# Altium schematic symbol library ubloxLib.SchLib: 81 symbols (part 2 of 3)
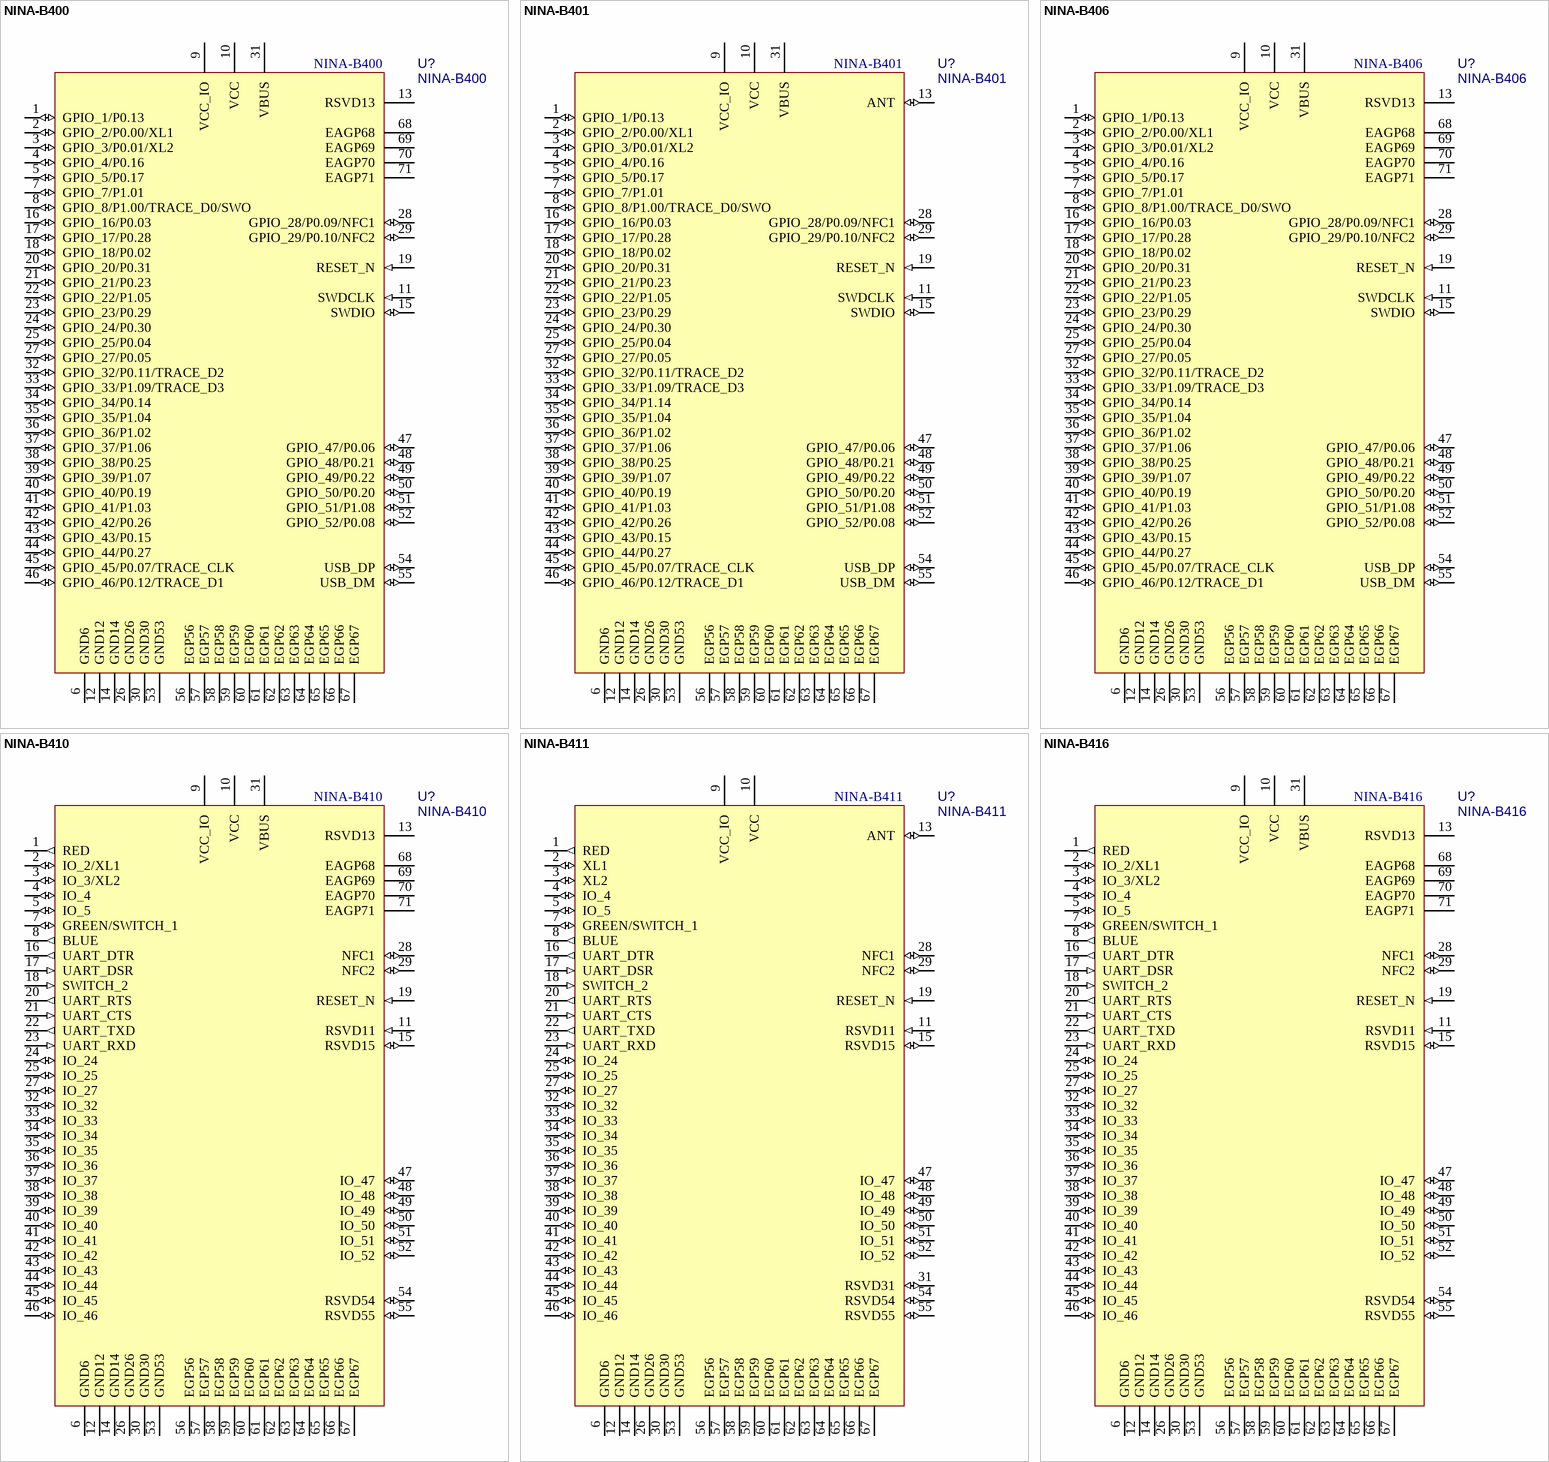
[diagram p16: symbols NINA-B400 to NINA-B416]

## NINA-B410
designator U?
u-blox NINA-B410 Bluetooth 5 LE, 802.15.4 module; Part Description: Stand-alone Bluetooth low energy module; Manufacturer: u-blox; Value: NINA-B410
footprint NINA_LGA71R_1500X1000X223_UFL (Stand-alone Bluetooth low energy module)
pins: 1 RED (out), 2 IO_2/XL1 (io), 3 IO_3/XL2 (io), 4 IO_4 (io), 5 IO_5 (io), 6 GND6 (power), 7 GREEN/SWITCH_1 (io), 8 BLUE (out), 9 VCC_IO (power), 10 VCC (power), 11 RSVD11 (in), 12 GND12 (power), 13 RSVD13, 14 GND14 (power), 15 RSVD15 (io), 16 UART_DTR (out), 17 UART_DSR (in), 18 SWITCH_2 (in), 19 RESET_N (in), 20 UART_RTS (out), 21 UART_CTS (in), 22 UART_TXD (out), 23 UART_RXD (in), 24 IO_24 (io), 25 IO_25 (io), 26 GND26 (power), 27 IO_27 (io), 28 NFC1 (io), 29 NFC2 (io), 30 GND30 (power), 31 VBUS (power), 32 IO_32 (io), 33 IO_33 (io), 34 IO_34 (io), 35 IO_35 (io), 36 IO_36 (io), 37 IO_37 (io), 38 IO_38 (io), 39 IO_39 (io), 40 IO_40 (io), 41 IO_41 (io), 42 IO_42 (io), 43 IO_43 (io), 44 IO_44 (io), 45 IO_45 (io), 46 IO_46 (io), 47 IO_47 (io), 48 IO_48 (io), 49 IO_49 (io), 50 IO_50 (io), 51 IO_51 (io), 52 IO_52 (io), 53 GND53 (power), 54 RSVD54 (io), 55 RSVD55 (io), 56 EGP56 (power), 57 EGP57 (power), 58 EGP58 (power), 59 EGP59 (power), 60 EGP60 (power), 61 EGP61 (power), 62 EGP62 (power), 63 EGP63 (power), 64 EGP64 (power), 65 EGP65 (power), 66 EGP66 (power), 67 EGP67 (power), 68 EAGP68 (power), 69 EAGP69 (power), 70 EAGP70 (power), 71 EAGP71 (power)

## NINA-B411
designator U?
u-blox NINA-B411 Bluetooth 5 LE, 802.15.4 module; Part Description: Stand-alone Bluetooth low energy module; Manufacturer: u-blox; Value: NINA-B411
footprint NINA_LGA67R_1160X1000X223_PIN (Stand-alone Bluetooth low energy module)
pins: 1 RED (out), 2 XL1 (io), 3 XL2 (io), 4 IO_4 (io), 5 IO_5 (io), 6 GND6 (power), 7 GREEN/SWITCH_1 (io), 8 BLUE (out), 9 VCC_IO (power), 10 VCC (power), 11 RSVD11 (in), 12 GND12 (power), 13 ANT (io), 14 GND14 (power), 15 RSVD15 (io), 16 UART_DTR (out), 17 UART_DSR (in), 18 SWITCH_2 (in), 19 RESET_N (in), 20 UART_RTS (out), 21 UART_CTS (in), 22 UART_TXD (out), 23 UART_RXD (in), 24 IO_24 (io), 25 IO_25 (io), 26 GND26 (power), 27 IO_27 (io), 28 NFC1 (io), 29 NFC2 (io), 30 GND30 (power), 31 RSVD31 (io), 32 IO_32 (io), 33 IO_33 (io), 34 IO_34 (io), 35 IO_35 (io), 36 IO_36 (io), 37 IO_37 (io), 38 IO_38 (io), 39 IO_39 (io), 40 IO_40 (io), 41 IO_41 (io), 42 IO_42 (io), 43 IO_43 (io), 44 IO_44 (io), 45 IO_45 (io), 46 IO_46 (io), 47 IO_47 (io), 48 IO_48 (io), 49 IO_49 (io), 50 IO_50 (io), 51 IO_51 (io), 52 IO_52 (io), 53 GND53 (power), 54 RSVD54 (io), 55 RSVD55 (io), 56 EGP56 (power), 57 EGP57 (power), 58 EGP58 (power), 59 EGP59 (power), 60 EGP60 (power), 61 EGP61 (power), 62 EGP62 (power), 63 EGP63 (power), 64 EGP64 (power), 65 EGP65 (power), 66 EGP66 (power), 67 EGP67 (power)

## NINA-B416
designator U?
u-blox NINA-B416 Bluetooth 5 LE, 802.15.4 module; Part Description: Stand-alone Bluetooth low energy module; Manufacturer: u-blox; Value: NINA-B416
footprint NINA_LGA71R_1500X1000X223_PCB (Stand-alone Bluetooth low energy module)
pins: 1 RED (out), 2 IO_2/XL1 (io), 3 IO_3/XL2 (io), 4 IO_4 (io), 5 IO_5 (io), 6 GND6 (power), 7 GREEN/SWITCH_1 (io), 8 BLUE (out), 9 VCC_IO (power), 10 VCC (power), 11 RSVD11 (in), 12 GND12 (power), 13 RSVD13, 14 GND14 (power), 15 RSVD15 (io), 16 UART_DTR (out), 17 UART_DSR (in), 18 SWITCH_2 (in), 19 RESET_N (in), 20 UART_RTS (out), 21 UART_CTS (in), 22 UART_TXD (out), 23 UART_RXD (in), 24 IO_24 (io), 25 IO_25 (io), 26 GND26 (power), 27 IO_27 (io), 28 NFC1 (io), 29 NFC2 (io), 30 GND30 (power), 31 VBUS (power), 32 IO_32 (io), 33 IO_33 (io), 34 IO_34 (io), 35 IO_35 (io), 36 IO_36 (io), 37 IO_37 (io), 38 IO_38 (io), 39 IO_39 (io), 40 IO_40 (io), 41 IO_41 (io), 42 IO_42 (io), 43 IO_43 (io), 44 IO_44 (io), 45 IO_45 (io), 46 IO_46 (io), 47 IO_47 (io), 48 IO_48 (io), 49 IO_49 (io), 50 IO_50 (io), 51 IO_51 (io), 52 IO_52 (io), 53 GND53 (power), 54 RSVD54 (io), 55 RSVD55 (io), 56 EGP56 (power), 57 EGP57 (power), 58 EGP58 (power), 59 EGP59 (power), 60 EGP60 (power), 61 EGP61 (power), 62 EGP62 (power), 63 EGP63 (power), 64 EGP64 (power), 65 EGP65 (power), 66 EGP66 (power), 67 EGP67 (power), 68 EAGP68 (power), 69 EAGP69 (power), 70 EAGP70 (power), 71 EAGP71 (power)

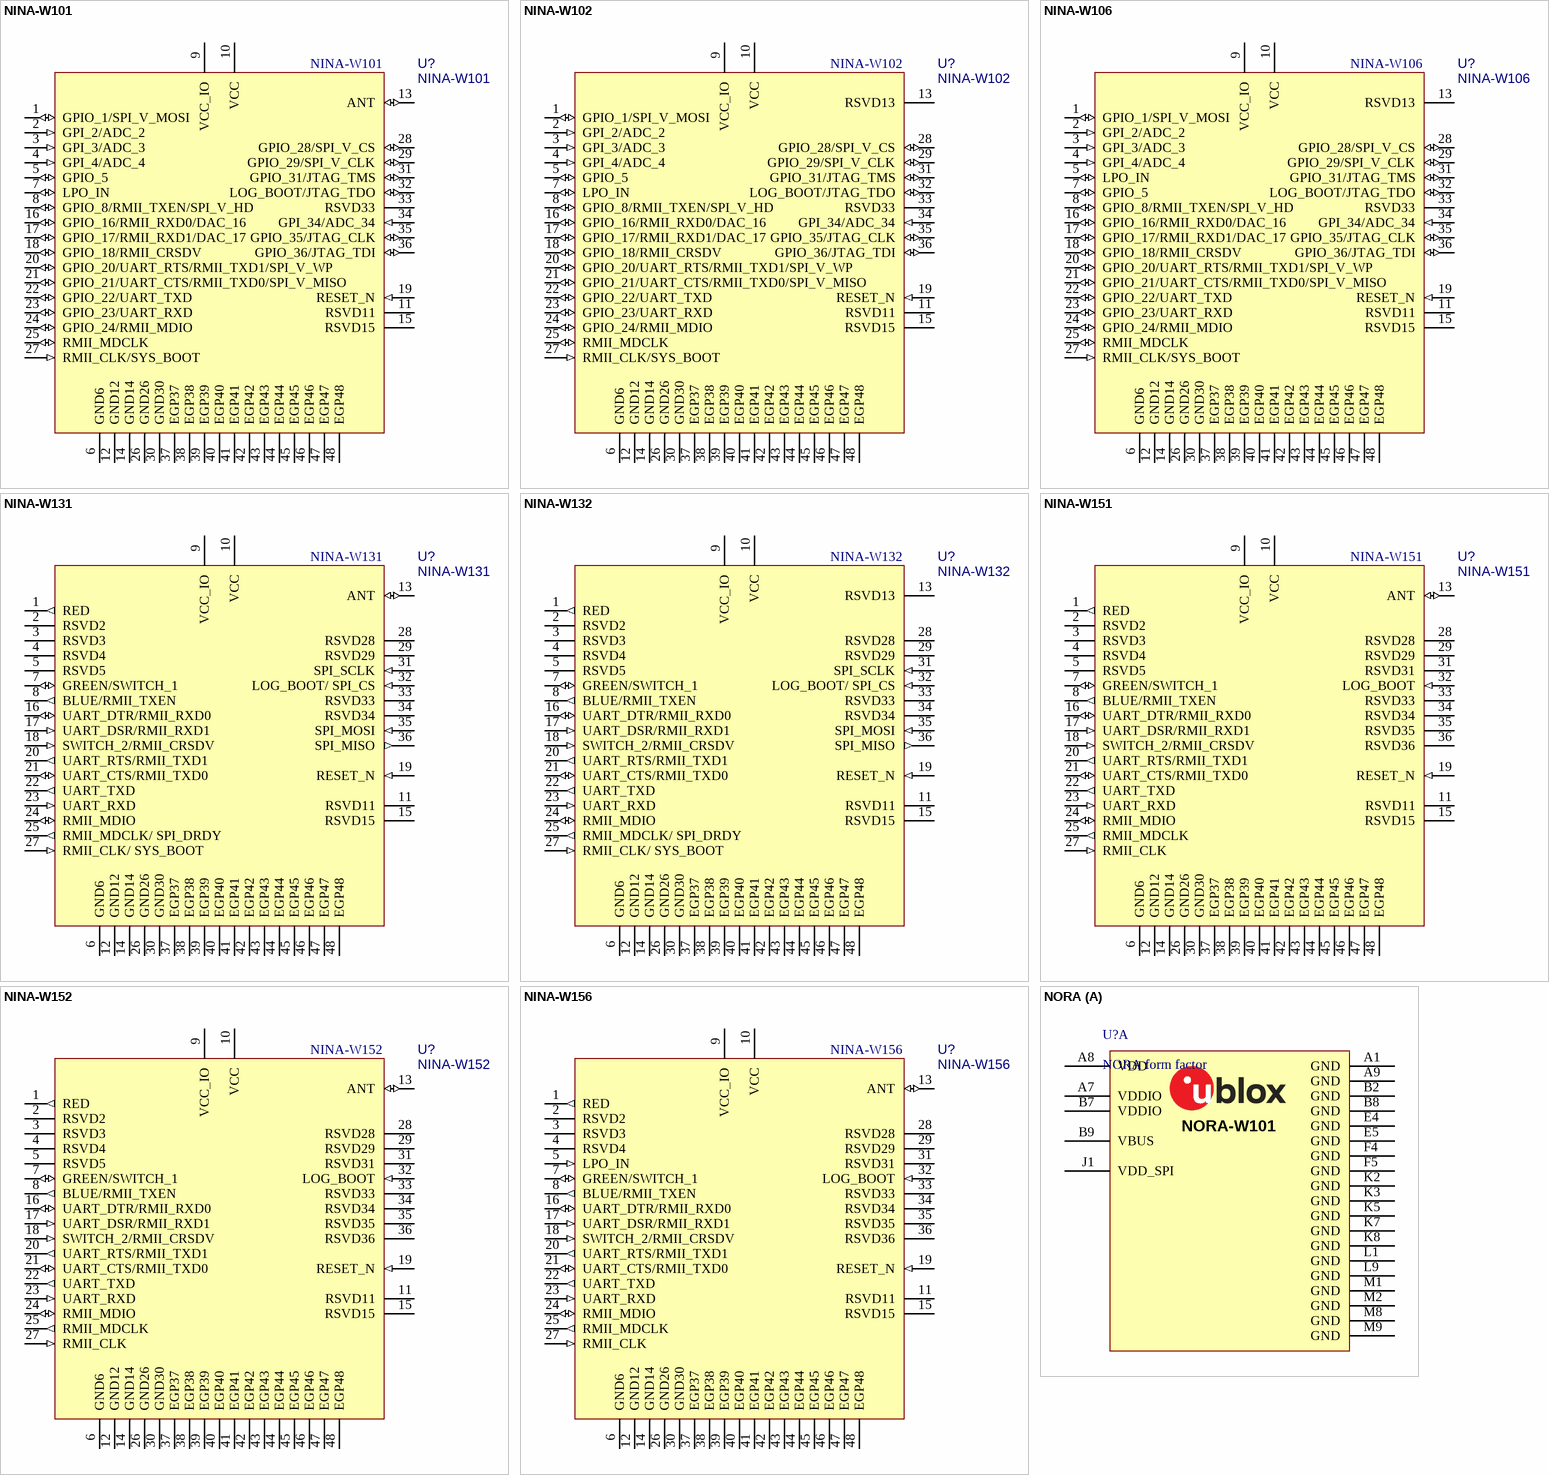
[diagram p8: symbols NINA-W101 to NORA]

## NINA-W101
designator U?
u-blox NINA-W101 WiFi, Bluetooth dual-mode module; Part Description: Stand-alone Bluetooth low energy module; Manufacturer: u-blox; Value: NINA-W101
footprint NINA_LGA48R_1060X1000X220_PIN (Stand-alone Bluetooth low energy module)
pins: 1 GPIO_1/SPI_V_MOSI (io), 2 GPI_2/ADC_2 (in), 3 GPI_3/ADC_3 (in), 4 GPI_4/ADC_4 (in), 5 GPIO_5 (io), 6 GND6 (power), 7 LPO_IN (io), 8 GPIO_8/RMII_TXEN/SPI_V_HD (io), 9 VCC_IO (power), 10 VCC (power), 11 RSVD11, 12 GND12 (power), 13 ANT (io), 14 GND14 (power), 15 RSVD15, 16 GPIO_16/RMII_RXD0/DAC_16 (io), 17 GPIO_17/RMII_RXD1/DAC_17 (io), 18 GPIO_18/RMII_CRSDV (io), 19 RESET_N (in), 20 GPIO_20/UART_RTS/RMII_TXD1/SPI_V_WP (io), 21 GPIO_21/UART_CTS/RMII_TXD0/SPI_V_MISO (io), 22 GPIO_22/UART_TXD (io), 23 GPIO_23/UART_RXD (io), 24 GPIO_24/RMII_MDIO (io), 25 RMII_MDCLK (io), 26 GND26 (power), 27 RMII_CLK/SYS_BOOT (in), 28 GPIO_28/SPI_V_CS (io), 29 GPIO_29/SPI_V_CLK (io), 30 GND30 (power), 31 GPIO_31/JTAG_TMS (io), 32 LOG_BOOT/JTAG_TDO (io), 33 RSVD33, 34 GPI_34/ADC_34 (in), 35 GPIO_35/JTAG_CLK (io), 36 GPIO_36/JTAG_TDI (io), 37 EGP37 (power), 38 EGP38 (power), 39 EGP39 (power), 40 EGP40 (power), 41 EGP41 (power), 42 EGP42 (power), 43 EGP43 (power), 44 EGP44 (power), 45 EGP45 (power), 46 EGP46 (power), 47 EGP47 (power), 48 EGP48 (power)

## NINA-W102
designator U?
u-blox NINA-W102 WiFi, Bluetooth dual-mode module; Part Description: Stand-alone Bluetooth low energy module; Manufacturer: u-blox; Value: NINA-W102
footprint NINA_LGA48R_1400X1000X380_PIFA (Stand-alone Bluetooth low energy module)
pins: 1 GPIO_1/SPI_V_MOSI (io), 2 GPI_2/ADC_2 (in), 3 GPI_3/ADC_3 (in), 4 GPI_4/ADC_4 (in), 5 GPIO_5 (io), 6 GND6 (power), 7 LPO_IN (io), 8 GPIO_8/RMII_TXEN/SPI_V_HD (io), 9 VCC_IO (power), 10 VCC (power), 11 RSVD11, 12 GND12 (power), 13 RSVD13, 14 GND14 (power), 15 RSVD15, 16 GPIO_16/RMII_RXD0/DAC_16 (io), 17 GPIO_17/RMII_RXD1/DAC_17 (io), 18 GPIO_18/RMII_CRSDV (io), 19 RESET_N (in), 20 GPIO_20/UART_RTS/RMII_TXD1/SPI_V_WP (io), 21 GPIO_21/UART_CTS/RMII_TXD0/SPI_V_MISO (io), 22 GPIO_22/UART_TXD (io), 23 GPIO_23/UART_RXD (io), 24 GPIO_24/RMII_MDIO (io), 25 RMII_MDCLK (io), 26 GND26 (power), 27 RMII_CLK/SYS_BOOT (in), 28 GPIO_28/SPI_V_CS (io), 29 GPIO_29/SPI_V_CLK (io), 30 GND30 (power), 31 GPIO_31/JTAG_TMS (io), 32 LOG_BOOT/JTAG_TDO (io), 33 RSVD33, 34 GPI_34/ADC_34 (in), 35 GPIO_35/JTAG_CLK (io), 36 GPIO_36/JTAG_TDI (io), 37 EGP37 (power), 38 EGP38 (power), 39 EGP39 (power), 40 EGP40 (power), 41 EGP41 (power), 42 EGP42 (power), 43 EGP43 (power), 44 EGP44 (power), 45 EGP45 (power), 46 EGP46 (power), 47 EGP47 (power), 48 EGP48 (power)

## NINA-W106
designator U?
u-blox NINA-W102 WiFi, Bluetooth dual-mode module; Part Description: Stand-alone Bluetooth low energy module; Manufacturer: u-blox; Value: NINA-W106
footprint NINA_LGA48R_1400X1000X223_PCB (Stand-alone Bluetooth low energy module)
pins: 1 GPIO_1/SPI_V_MOSI (io), 2 GPI_2/ADC_2 (in), 3 GPI_3/ADC_3 (in), 4 GPI_4/ADC_4 (in), 5 LPO_IN (io), 6 GND6 (power), 7 GPIO_5 (io), 8 GPIO_8/RMII_TXEN/SPI_V_HD (io), 9 VCC_IO (power), 10 VCC (power), 11 RSVD11, 12 GND12 (power), 13 RSVD13, 14 GND14 (power), 15 RSVD15, 16 GPIO_16/RMII_RXD0/DAC_16 (io), 17 GPIO_17/RMII_RXD1/DAC_17 (io), 18 GPIO_18/RMII_CRSDV (io), 19 RESET_N (in), 20 GPIO_20/UART_RTS/RMII_TXD1/SPI_V_WP (io), 21 GPIO_21/UART_CTS/RMII_TXD0/SPI_V_MISO (io), 22 GPIO_22/UART_TXD (io), 23 GPIO_23/UART_RXD (io), 24 GPIO_24/RMII_MDIO (io), 25 RMII_MDCLK (io), 26 GND26 (power), 27 RMII_CLK/SYS_BOOT (in), 28 GPIO_28/SPI_V_CS (io), 29 GPIO_29/SPI_V_CLK (io), 30 GND30 (power), 31 GPIO_31/JTAG_TMS (io), 32 LOG_BOOT/JTAG_TDO (io), 33 RSVD33, 34 GPI_34/ADC_34 (in), 35 GPIO_35/JTAG_CLK (io), 36 GPIO_36/JTAG_TDI (io), 37 EGP37 (power), 38 EGP38 (power), 39 EGP39 (power), 40 EGP40 (power), 41 EGP41 (power), 42 EGP42 (power), 43 EGP43 (power), 44 EGP44 (power), 45 EGP45 (power), 46 EGP46 (power), 47 EGP47 (power), 48 EGP48 (power)

## NINA-W131
designator U?
u-blox NINA-W131 WiFi module; Part Description: Stand-alone Bluetooth low energy module; Manufacturer: u-blox; Value: NINA-W131
footprint NINA_LGA48R_1060X1000X220_PIN (Stand-alone Bluetooth low energy module)
pins: 1 RED (out), 2 RSVD2, 3 RSVD3, 4 RSVD4, 5 RSVD5, 6 GND6 (power), 7 GREEN/SWITCH_1 (io), 8 BLUE/RMII_TXEN (out), 9 VCC_IO (power), 10 VCC (power), 11 RSVD11, 12 GND12 (power), 13 ANT (io), 14 GND14 (power), 15 RSVD15, 16 UART_DTR/RMII_RXD0 (io), 17 UART_DSR/RMII_RXD1 (in), 18 SWITCH_2/RMII_CRSDV (in), 19 RESET_N (in), 20 UART_RTS/RMII_TXD1 (out), 21 UART_CTS/RMII_TXD0 (io), 22 UART_TXD (out), 23 UART_RXD (in), 24 RMII_MDIO (io), 25 RMII_MDCLK/ SPI_DRDY (out), 26 GND26 (power), 27 RMII_CLK/ SYS_BOOT (in), 28 RSVD28, 29 RSVD29, 30 GND30 (power), 31 SPI_SCLK (in), 32 LOG_BOOT/ SPI_CS (in), 33 RSVD33, 34 RSVD34, 35 SPI_MOSI (in), 36 SPI_MISO (out), 37 EGP37 (power), 38 EGP38 (power), 39 EGP39 (power), 40 EGP40 (power), 41 EGP41 (power), 42 EGP42 (power), 43 EGP43 (power), 44 EGP44 (power), 45 EGP45 (power), 46 EGP46 (power), 47 EGP47 (power), 48 EGP48 (power)

## NINA-W132
designator U?
u-blox NINA-W1312WiFi module; Part Description: Stand-alone Bluetooth low energy module; Manufacturer: u-blox; Value: NINA-W132
footprint NINA_LGA48R_1400X1000X380_PIFA (Stand-alone Bluetooth low energy module)
pins: 1 RED (out), 2 RSVD2, 3 RSVD3, 4 RSVD4, 5 RSVD5, 6 GND6 (power), 7 GREEN/SWITCH_1 (io), 8 BLUE/RMII_TXEN (out), 9 VCC_IO (power), 10 VCC (power), 11 RSVD11, 12 GND12 (power), 13 RSVD13, 14 GND14 (power), 15 RSVD15, 16 UART_DTR/RMII_RXD0 (io), 17 UART_DSR/RMII_RXD1 (in), 18 SWITCH_2/RMII_CRSDV (in), 19 RESET_N (in), 20 UART_RTS/RMII_TXD1 (out), 21 UART_CTS/RMII_TXD0 (io), 22 UART_TXD (out), 23 UART_RXD (in), 24 RMII_MDIO (io), 25 RMII_MDCLK/ SPI_DRDY (out), 26 GND26 (power), 27 RMII_CLK/ SYS_BOOT (in), 28 RSVD28, 29 RSVD29, 30 GND30 (power), 31 SPI_SCLK (in), 32 LOG_BOOT/ SPI_CS (in), 33 RSVD33, 34 RSVD34, 35 SPI_MOSI (in), 36 SPI_MISO (out), 37 EGP37 (power), 38 EGP38 (power), 39 EGP39 (power), 40 EGP40 (power), 41 EGP41 (power), 42 EGP42 (power), 43 EGP43 (power), 44 EGP44 (power), 45 EGP45 (power), 46 EGP46 (power), 47 EGP47 (power), 48 EGP48 (power)

## NINA-W151
designator U?
u-blox NINA-W151 WiFi, Bluetooth dual-mode module; Part Description: Stand-alone Bluetooth low energy module; Manufacturer: u-blox; Value: NINA-W151
footprint NINA_LGA48R_1060X1000X220_PIN (Stand-alone Bluetooth low energy module)
pins: 1 RED (out), 2 RSVD2, 3 RSVD3, 4 RSVD4, 5 RSVD5, 6 GND6 (power), 7 GREEN/SWITCH_1 (io), 8 BLUE/RMII_TXEN (out), 9 VCC_IO (power), 10 VCC (power), 11 RSVD11, 12 GND12 (power), 13 ANT (io), 14 GND14 (power), 15 RSVD15, 16 UART_DTR/RMII_RXD0 (io), 17 UART_DSR/RMII_RXD1 (in), 18 SWITCH_2/RMII_CRSDV (in), 19 RESET_N (in), 20 UART_RTS/RMII_TXD1 (out), 21 UART_CTS/RMII_TXD0 (io), 22 UART_TXD (out), 23 UART_RXD (in), 24 RMII_MDIO (io), 25 RMII_MDCLK (out), 26 GND26 (power), 27 RMII_CLK (in), 28 RSVD28, 29 RSVD29, 30 GND30 (power), 31 RSVD31, 32 LOG_BOOT (in), 33 RSVD33, 34 RSVD34, 35 RSVD35, 36 RSVD36, 37 EGP37 (power), 38 EGP38 (power), 39 EGP39 (power), 40 EGP40 (power), 41 EGP41 (power), 42 EGP42 (power), 43 EGP43 (power), 44 EGP44 (power), 45 EGP45 (power), 46 EGP46 (power), 47 EGP47 (power), 48 EGP48 (power)

## NINA-W152
designator U?
u-blox NINA-W152 WiFi, Bluetooth dual-mode module; Part Description: Stand-alone Bluetooth low energy module; Manufacturer: u-blox; Value: NINA-W152
footprint NINA_LGA48R_1400X1000X380_PIFA (Stand-alone Bluetooth low energy module)
pins: 1 RED (out), 2 RSVD2, 3 RSVD3, 4 RSVD4, 5 RSVD5, 6 GND6 (power), 7 GREEN/SWITCH_1 (io), 8 BLUE/RMII_TXEN (out), 9 VCC_IO (power), 10 VCC (power), 11 RSVD11, 12 GND12 (power), 13 ANT (io), 14 GND14 (power), 15 RSVD15, 16 UART_DTR/RMII_RXD0 (io), 17 UART_DSR/RMII_RXD1 (in), 18 SWITCH_2/RMII_CRSDV (in), 19 RESET_N (in), 20 UART_RTS/RMII_TXD1 (out), 21 UART_CTS/RMII_TXD0 (io), 22 UART_TXD (out), 23 UART_RXD (in), 24 RMII_MDIO (io), 25 RMII_MDCLK (out), 26 GND26 (power), 27 RMII_CLK (in), 28 RSVD28, 29 RSVD29, 30 GND30 (power), 31 RSVD31, 32 LOG_BOOT (in), 33 RSVD33, 34 RSVD34, 35 RSVD35, 36 RSVD36, 37 EGP37 (power), 38 EGP38 (power), 39 EGP39 (power), 40 EGP40 (power), 41 EGP41 (power), 42 EGP42 (power), 43 EGP43 (power), 44 EGP44 (power), 45 EGP45 (power), 46 EGP46 (power), 47 EGP47 (power), 48 EGP48 (power)

## NINA-W156
designator U?
u-blox NINA-W156 WiFi, Bluetooth dual-mode module; Part Description: Stand-alone Bluetooth low energy module; Manufacturer: u-blox; Value: NINA-W156
footprint NINA_LGA48R_1400X1000X223_PCB (Stand-alone Bluetooth low energy module)
pins: 1 RED (out), 2 RSVD2, 3 RSVD3, 4 RSVD4, 5 LPO_IN (in), 6 GND6 (power), 7 GREEN/SWITCH_1 (io), 8 BLUE/RMII_TXEN (out), 9 VCC_IO (power), 10 VCC (power), 11 RSVD11, 12 GND12 (power), 13 ANT (io), 14 GND14 (power), 15 RSVD15, 16 UART_DTR/RMII_RXD0 (io), 17 UART_DSR/RMII_RXD1 (in), 18 SWITCH_2/RMII_CRSDV (in), 19 RESET_N (in), 20 UART_RTS/RMII_TXD1 (out), 21 UART_CTS/RMII_TXD0 (io), 22 UART_TXD (out), 23 UART_RXD (in), 24 RMII_MDIO (io), 25 RMII_MDCLK (out), 26 GND26 (power), 27 RMII_CLK (in), 28 RSVD28, 29 RSVD29, 30 GND30 (power), 31 RSVD31, 32 LOG_BOOT (in), 33 RSVD33, 34 RSVD34, 35 RSVD35, 36 RSVD36, 37 EGP37 (power), 38 EGP38 (power), 39 EGP39 (power), 40 EGP40 (power), 41 EGP41 (power), 42 EGP42 (power), 43 EGP43 (power), 44 EGP44 (power), 45 EGP45 (power), 46 EGP46 (power), 47 EGP47 (power), 48 EGP48 (power)

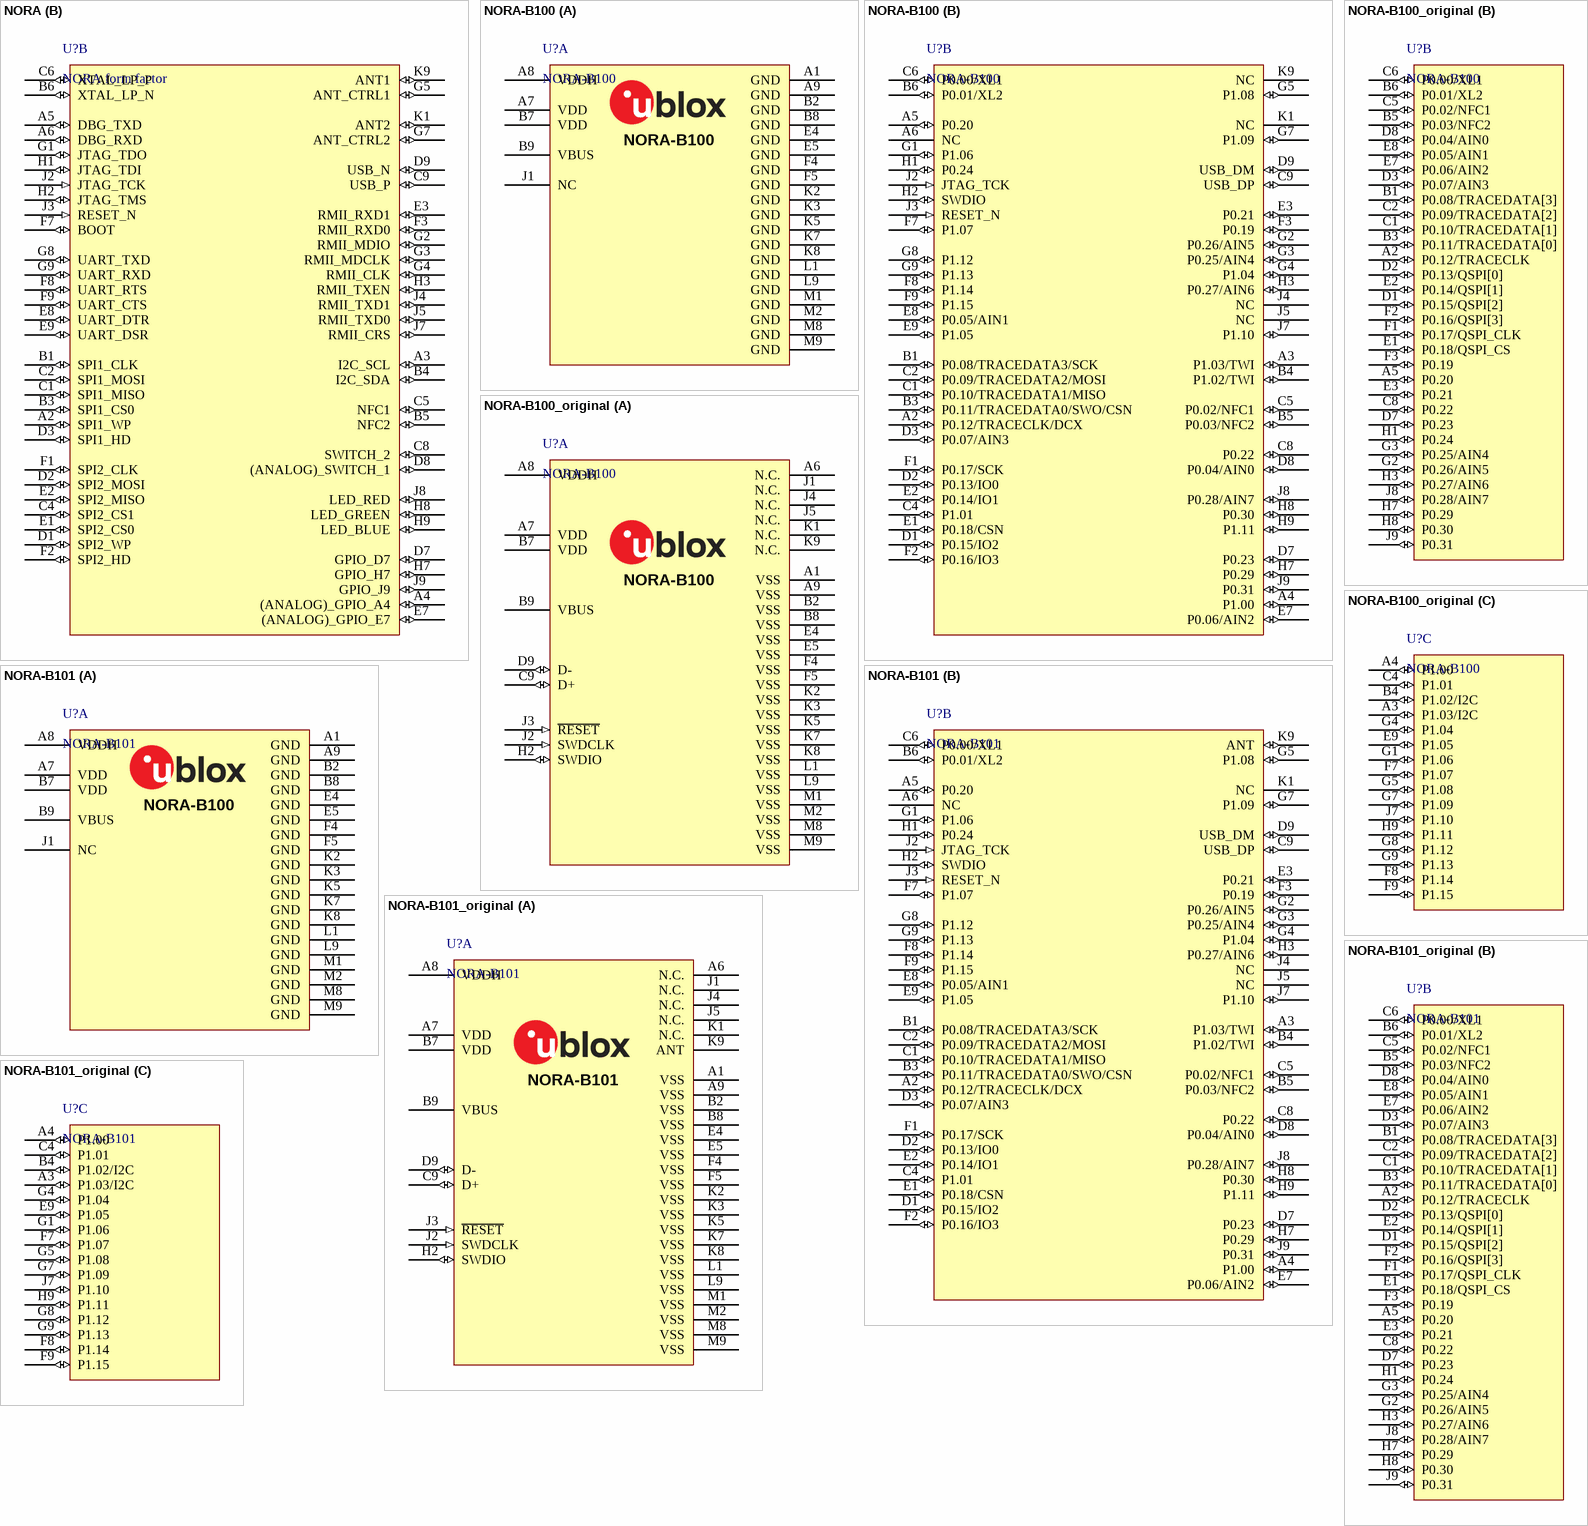
[diagram p9: symbols NORA to NORA-B101_original]

## NORA
designator U?, comment NORA form factor
u-blox NORA form factor - generic; Manufacturer P/N: NORA-B101-00B; Part Number: NORA-B101; Part_Type: Module; Part Description: Stand-alone Bluetooth low energy module - dual-core; Body Size: 14.3 mm x 10.4 mm; Value: NORA-W101; Part Name: NORA-B101; Manufacturer: u-blox; Height: 1.8 mm
footprint NORA_LGA82R_1430X1040_GENERIC (NORA LGA, 82pin ,1.1mm Pitch, 14.3mm x 10.4mm)
part A pins: A1 GND (power), A7 VDDIO (power), A8 VDD (power), A9 GND (power), B2 GND (power), B7 VDDIO (power), B8 GND (power), B9 VBUS (power), E4 GND (power), E5 GND (power), F4 GND (power), F5 GND (power), J1 VDD_SPI (power), K2 GND (power), K3 GND (power), K5 GND (power), K7 GND (power), K8 GND (power), L1 GND (power), L9 GND (power), M1 GND (power), M2 GND (power), M8 GND (power), M9 GND (power)
part B pins: A2 SPI1_WP (io), A3 I2C_SCL (io), A4 (ANALOG)_GPIO_A4 (io), A5 DBG_TXD (io), A6 DBG_RXD (io), B1 SPI1_CLK (io), B3 SPI1_CS0 (io), B4 I2C_SDA (io), B5 NFC2 (io), B6 XTAL_LP_N (io), C1 SPI1_MISO (io), C2 SPI1_MOSI (io), C4 SPI2_CS1 (io), C5 NFC1 (io), C6 XTAL_LP_P (io), C8 SWITCH_2 (io), C9 USB_P (io), D1 SPI2_WP (io), D2 SPI2_MOSI (io), D3 SPI1_HD (io), D7 GPIO_D7 (io), D8 (ANALOG)_SWITCH_1 (io), D9 USB_N (io), E1 SPI2_CS0 (io), E2 SPI2_MISO (io), E3 RMII_RXD1 (io), E7 (ANALOG)_GPIO_E7 (io), E8 UART_DTR (io), E9 UART_DSR (io), F1 SPI2_CLK (io), F2 SPI2_HD (io), F3 RMII_RXD0 (io), F7 BOOT (io), F8 UART_RTS (io), F9 UART_CTS (io), G1 JTAG_TDO (io), G2 RMII_MDIO (io), G3 RMII_MDCLK (io), G4 RMII_CLK (io), G5 ANT_CTRL1 (io), G7 ANT_CTRL2 (io), G8 UART_TXD (io), G9 UART_RXD (io), H1 JTAG_TDI (io), H2 JTAG_TMS (io), H3 RMII_TXEN (io), H7 GPIO_H7 (io), H8 LED_GREEN (io), H9 LED_BLUE (io), J2 JTAG_TCK (in), J3 RESET_N (in), J4 RMII_TXD1 (io), J5 RMII_TXD0 (io), J7 RMII_CRS (io), J8 LED_RED (io), J9 GPIO_J9 (io), K1 ANT2 (io), K9 ANT1 (io)

## NORA-B100
designator U?
u-blox NORA-B100 Bluetooth 5.2 LE module - dual core - U.FL; Manufacturer P/N: NORA-B101-00B; Part Number: NORA-B101; Part Description: Stand-alone Bluetooth low energy module - dual-core; Body Size: 14.3 mm x 10.4 mm; Value: NORA-W101; Part Name: NORA-B101; Part_Type: Module; Manufacturer: u-blox; Height: 1.8 mm
footprint NORA_LGA82R_1430X1040X180_UFL (NORA LGA, 82pin ,1.1mm Pitch, 14.3mm x 10.4mm)
part A pins: A1 GND (power), A7 VDD (power), A8 VDDH (power), A9 GND (power), B2 GND (power), B7 VDD (power), B8 GND (power), B9 VBUS (power), E4 GND (power), E5 GND (power), F4 GND (power), F5 GND (power), J1 NC, K2 GND (power), K3 GND (power), K5 GND (power), K7 GND (power), K8 GND (power), L1 GND (power), L9 GND (power), M1 GND (power), M2 GND (power), M8 GND (power), M9 GND (power)
part B pins: A2 P0.12/TRACECLK/DCX (io), A3 P1.03/TWI (io), A4 P1.00 (io), A5 P0.20 (io), A6 NC, B1 P0.08/TRACEDATA3/SCK (io), B3 P0.11/TRACEDATA0/SWO/CSN (io), B4 P1.02/TWI (io), B5 P0.03/NFC2 (io), B6 P0.01/XL2 (io), C1 P0.10/TRACEDATA1/MISO (io), C2 P0.09/TRACEDATA2/MOSI (io), C4 P1.01 (io), C5 P0.02/NFC1 (io), C6 P0.00/XL1 (io), C8 P0.22 (io), C9 USB_DP (io), D1 P0.15/IO2 (io), D2 P0.13/IO0 (io), D3 P0.07/AIN3 (io), D7 P0.23 (io), D8 P0.04/AIN0 (io), D9 USB_DM (io), E1 P0.18/CSN (io), E2 P0.14/IO1 (io), E3 P0.21 (io), E7 P0.06/AIN2 (io), E8 P0.05/AIN1 (io), E9 P1.05 (io), F1 P0.17/SCK (io), F2 P0.16/IO3 (io), F3 P0.19 (io), F7 P1.07 (io), F8 P1.14 (io), F9 P1.15 (io), G1 P1.06 (io), G2 P0.26/AIN5 (io), G3 P0.25/AIN4 (io), G4 P1.04 (io), G5 P1.08 (io), G7 P1.09 (io), G8 P1.12 (io), G9 P1.13 (io), H1 P0.24 (io), H2 SWDIO (io), H3 P0.27/AIN6 (io), H7 P0.29 (io), H8 P0.30 (io), H9 P1.11 (io), J2 JTAG_TCK (in), J3 RESET_N (in), J4 NC, J5 NC, J7 P1.10 (io), J8 P0.28/AIN7 (io), J9 P0.31 (io), K1 NC, K9 NC

## NORA-B100_original
designator U?, comment NORA-B100
u-blox NORA-B100 Bluetooth 5.2 LE module - dual core; Manufacturer P/N: NORA-B100-00B; Part Description: Stand-alone Bluetooth low energy module - dual core; Body Size: 14.3 mm x 10.4 mm; Part Number: NORA-B100; Part Name: NORA-B100; Part_Type: Module; Manufacturer: u-blox; Height: 1.8 mm; Value: NORA-B100
footprint NORA_LGA82R_1430X1040X180_UFL (NORA LGA, 82pin ,1.1mm Pitch, 14.3mm x 10.4mm)
part A pins: A1 VSS (power), A6 N.C. (hiz), A7 VDD (power), A8 VDDH (power), A9 VSS (power), B2 VSS (power), B7 VDD (power), B8 VSS (power), B9 VBUS (power), C9 D+ (io), D9 D- (io), E4 VSS (power), E5 VSS (power), F4 VSS (power), F5 VSS (power), H2 SWDIO (io), J1 N.C. (hiz), J2 SWDCLK (in), J3 ~{RESET} (in), J4 N.C. (hiz), J5 N.C. (hiz), K1 N.C. (hiz), K2 VSS (power), K3 VSS (power), K5 VSS (power), K7 VSS (power), K8 VSS (power), K9 N.C. (hiz), L1 VSS (power), L9 VSS (power), M1 VSS (power), M2 VSS (power), M8 VSS (power), M9 VSS (power)
part B pins: A2 P0.12/TRACECLK (io), A5 P0.20 (io), B1 P0.08/TRACEDATA[3] (io), B3 P0.11/TRACEDATA[0] (io), B5 P0.03/NFC2 (io), B6 P0.01/XL2 (io), C1 P0.10/TRACEDATA[1] (io), C2 P0.09/TRACEDATA[2] (io), C5 P0.02/NFC1 (io), C6 P0.00/XL1 (io), C8 P0.22 (io), D1 P0.15/QSPI[2] (io), D2 P0.13/QSPI[0] (io), D3 P0.07/AIN3 (io), D7 P0.23 (io), D8 P0.04/AIN0 (io), E1 P0.18/QSPI_CS (io), E2 P0.14/QSPI[1] (io), E3 P0.21 (io), E7 P0.06/AIN2 (io), E8 P0.05/AIN1 (io), F1 P0.17/QSPI_CLK (io), F2 P0.16/QSPI[3] (io), F3 P0.19 (io), G2 P0.26/AIN5 (io), G3 P0.25/AIN4 (io), H1 P0.24 (io), H3 P0.27/AIN6 (io), H7 P0.29 (io), H8 P0.30 (io), J8 P0.28/AIN7 (io), J9 P0.31 (io)
part C pins: A3 P1.03/I2C (io), A4 P1.00 (io), B4 P1.02/I2C (io), C4 P1.01 (io), E9 P1.05 (io), F7 P1.07 (io), F8 P1.14 (io), F9 P1.15 (io), G1 P1.06 (io), G4 P1.04 (io), G5 P1.08 (io), G7 P1.09 (io), G8 P1.12 (io), G9 P1.13 (io), H9 P1.11 (io), J7 P1.10 (io)

## NORA-B101
designator U?
u-blox NORA-B101 Bluetooth 5.2 LE module - dual core - antenna pin; Manufacturer P/N: NORA-B101-00B; Part Description: Stand-alone Bluetooth low energy module - dual-core; Body Size: 14.3 mm x 10.4 mm; Value: NORA-W101; Part Number: NORA-B101; Part Name: NORA-B101; Part_Type: Module; Manufacturer: u-blox; Height: 1.8 mm
footprint NORA_LGA82R_1430X1040X180_PIN (NORA LGA, 82pin ,1.1mm Pitch, 14.3mm x 10.4mm)
part A pins: A1 GND (power), A7 VDD (power), A8 VDDH (power), A9 GND (power), B2 GND (power), B7 VDD (power), B8 GND (power), B9 VBUS (power), E4 GND (power), E5 GND (power), F4 GND (power), F5 GND (power), J1 NC, K2 GND (power), K3 GND (power), K5 GND (power), K7 GND (power), K8 GND (power), L1 GND (power), L9 GND (power), M1 GND (power), M2 GND (power), M8 GND (power), M9 GND (power)
part B pins: A2 P0.12/TRACECLK/DCX (io), A3 P1.03/TWI (io), A4 P1.00 (io), A5 P0.20 (io), A6 NC, B1 P0.08/TRACEDATA3/SCK (io), B3 P0.11/TRACEDATA0/SWO/CSN (io), B4 P1.02/TWI (io), B5 P0.03/NFC2 (io), B6 P0.01/XL2 (io), C1 P0.10/TRACEDATA1/MISO (io), C2 P0.09/TRACEDATA2/MOSI (io), C4 P1.01 (io), C5 P0.02/NFC1 (io), C6 P0.00/XL1 (io), C8 P0.22 (io), C9 USB_DP (io), D1 P0.15/IO2 (io), D2 P0.13/IO0 (io), D3 P0.07/AIN3 (io), D7 P0.23 (io), D8 P0.04/AIN0 (io), D9 USB_DM (io), E1 P0.18/CSN (io), E2 P0.14/IO1 (io), E3 P0.21 (io), E7 P0.06/AIN2 (io), E8 P0.05/AIN1 (io), E9 P1.05 (io), F1 P0.17/SCK (io), F2 P0.16/IO3 (io), F3 P0.19 (io), F7 P1.07 (io), F8 P1.14 (io), F9 P1.15 (io), G1 P1.06 (io), G2 P0.26/AIN5 (io), G3 P0.25/AIN4 (io), G4 P1.04 (io), G5 P1.08 (io), G7 P1.09 (io), G8 P1.12 (io), G9 P1.13 (io), H1 P0.24 (io), H2 SWDIO (io), H3 P0.27/AIN6 (io), H7 P0.29 (io), H8 P0.30 (io), H9 P1.11 (io), J2 JTAG_TCK (in), J3 RESET_N (in), J4 NC, J5 NC, J7 P1.10 (io), J8 P0.28/AIN7 (io), J9 P0.31 (io), K1 NC, K9 ANT (io)
part A text: NORA-B100

## NORA-B101_original
designator U?, comment NORA-B101
u-blox NORA-B101 Bluetooth 5.2 LE module - dual core; Manufacturer P/N: NORA-B101-00B; Part Description: Stand-alone Bluetooth low energy module - dual-core; Body Size: 14.3 mm x 10.4 mm; Part Number: NORA-B101; Part Name: NORA-B101; Part_Type: Module; Manufacturer: u-blox; Height: 1.8 mm; Value: NORA-B101
footprint NORA_LGA82R_1430X1040X180_PIN (NORA LGA, 82pin ,1.1mm Pitch, 14.3mm x 10.4mm)
part A pins: A1 VSS (power), A6 N.C. (hiz), A7 VDD (power), A8 VDDH (power), A9 VSS (power), B2 VSS (power), B7 VDD (power), B8 VSS (power), B9 VBUS (power), C9 D+ (io), D9 D- (io), E4 VSS (power), E5 VSS (power), F4 VSS (power), F5 VSS (power), H2 SWDIO (io), J1 N.C. (hiz), J2 SWDCLK (in), J3 ~{RESET} (in), J4 N.C. (hiz), J5 N.C. (hiz), K1 N.C. (hiz), K2 VSS (power), K3 VSS (power), K5 VSS (power), K7 VSS (power), K8 VSS (power), K9 ANT (hiz), L1 VSS (power), L9 VSS (power), M1 VSS (power), M2 VSS (power), M8 VSS (power), M9 VSS (power)
part B pins: A2 P0.12/TRACECLK (io), A5 P0.20 (io), B1 P0.08/TRACEDATA[3] (io), B3 P0.11/TRACEDATA[0] (io), B5 P0.03/NFC2 (io), B6 P0.01/XL2 (io), C1 P0.10/TRACEDATA[1] (io), C2 P0.09/TRACEDATA[2] (io), C5 P0.02/NFC1 (io), C6 P0.00/XL1 (io), C8 P0.22 (io), D1 P0.15/QSPI[2] (io), D2 P0.13/QSPI[0] (io), D3 P0.07/AIN3 (io), D7 P0.23 (io), D8 P0.04/AIN0 (io), E1 P0.18/QSPI_CS (io), E2 P0.14/QSPI[1] (io), E3 P0.21 (io), E7 P0.06/AIN2 (io), E8 P0.05/AIN1 (io), F1 P0.17/QSPI_CLK (io), F2 P0.16/QSPI[3] (io), F3 P0.19 (io), G2 P0.26/AIN5 (io), G3 P0.25/AIN4 (io), H1 P0.24 (io), H3 P0.27/AIN6 (io), H7 P0.29 (io), H8 P0.30 (io), J8 P0.28/AIN7 (io), J9 P0.31 (io)
part C pins: A3 P1.03/I2C (io), A4 P1.00 (io), B4 P1.02/I2C (io), C4 P1.01 (io), E9 P1.05 (io), F7 P1.07 (io), F8 P1.14 (io), F9 P1.15 (io), G1 P1.06 (io), G4 P1.04 (io), G5 P1.08 (io), G7 P1.09 (io), G8 P1.12 (io), G9 P1.13 (io), H9 P1.11 (io), J7 P1.10 (io)

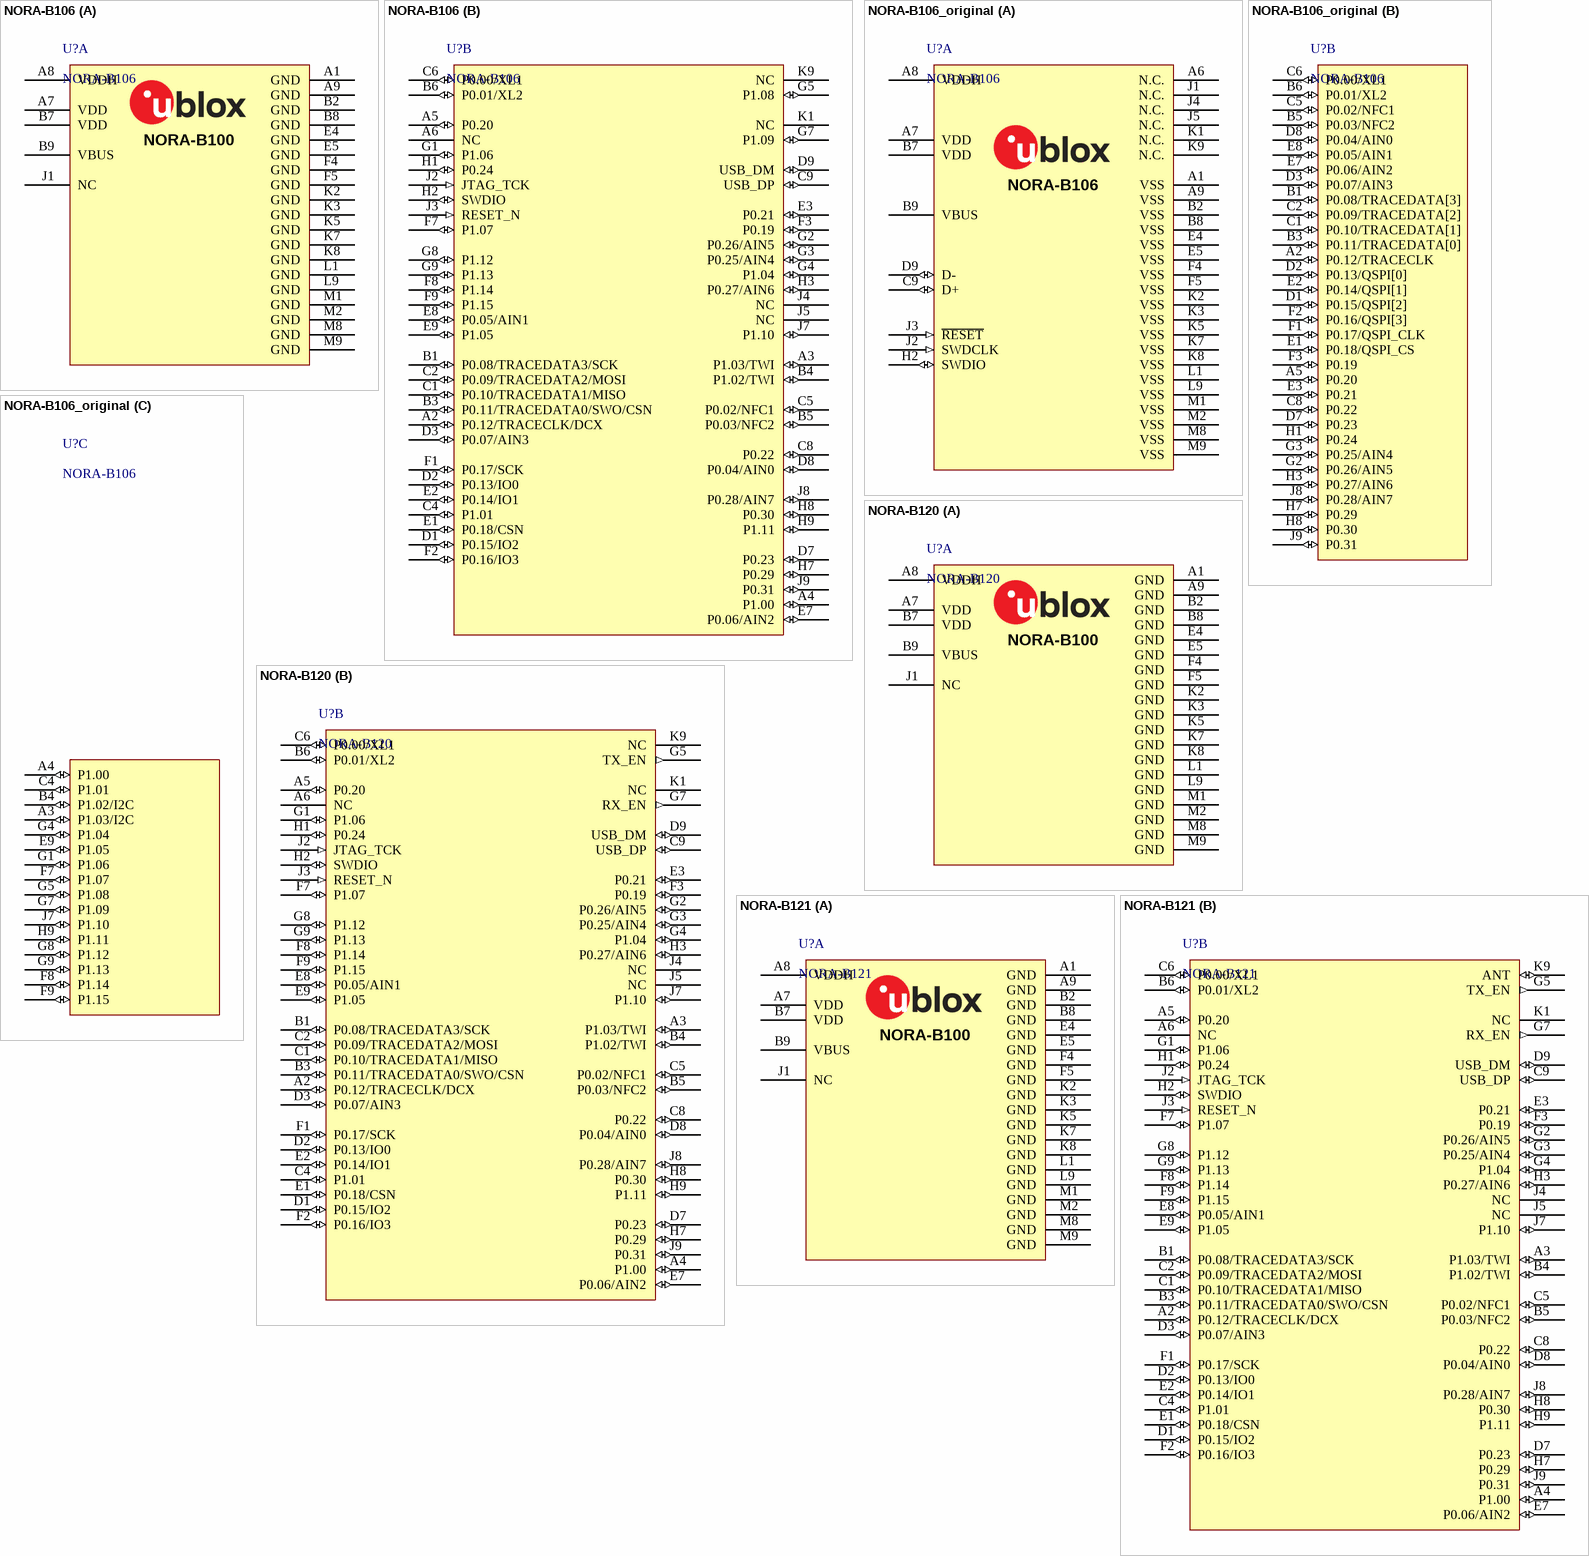
[diagram p10: symbols NORA-B106 to NORA-B121]

## NORA-B106
designator U?
u-blox NORA-B106 Bluetooth 5.2 LE module - dual core - PCB antenna; Manufacturer P/N: NORA-B101-00B; Part Number: NORA-B101; Part Description: Stand-alone Bluetooth low energy module - dual-core; Body Size: 14.3 mm x 10.4 mm; Value: NORA-W101; Part Name: NORA-B101; Part_Type: Module; Manufacturer: u-blox; Height: 1.8 mm
footprint NORA_LGA82R_1430X1040X180_ANT (NORA LGA, 82pin ,1.1mm Pitch, 14.3mm x 10.4mm)
part A pins: A1 GND (power), A7 VDD (power), A8 VDDH (power), A9 GND (power), B2 GND (power), B7 VDD (power), B8 GND (power), B9 VBUS (power), E4 GND (power), E5 GND (power), F4 GND (power), F5 GND (power), J1 NC, K2 GND (power), K3 GND (power), K5 GND (power), K7 GND (power), K8 GND (power), L1 GND (power), L9 GND (power), M1 GND (power), M2 GND (power), M8 GND (power), M9 GND (power)
part B pins: A2 P0.12/TRACECLK/DCX (io), A3 P1.03/TWI (io), A4 P1.00 (io), A5 P0.20 (io), A6 NC, B1 P0.08/TRACEDATA3/SCK (io), B3 P0.11/TRACEDATA0/SWO/CSN (io), B4 P1.02/TWI (io), B5 P0.03/NFC2 (io), B6 P0.01/XL2 (io), C1 P0.10/TRACEDATA1/MISO (io), C2 P0.09/TRACEDATA2/MOSI (io), C4 P1.01 (io), C5 P0.02/NFC1 (io), C6 P0.00/XL1 (io), C8 P0.22 (io), C9 USB_DP (io), D1 P0.15/IO2 (io), D2 P0.13/IO0 (io), D3 P0.07/AIN3 (io), D7 P0.23 (io), D8 P0.04/AIN0 (io), D9 USB_DM (io), E1 P0.18/CSN (io), E2 P0.14/IO1 (io), E3 P0.21 (io), E7 P0.06/AIN2 (io), E8 P0.05/AIN1 (io), E9 P1.05 (io), F1 P0.17/SCK (io), F2 P0.16/IO3 (io), F3 P0.19 (io), F7 P1.07 (io), F8 P1.14 (io), F9 P1.15 (io), G1 P1.06 (io), G2 P0.26/AIN5 (io), G3 P0.25/AIN4 (io), G4 P1.04 (io), G5 P1.08 (io), G7 P1.09 (io), G8 P1.12 (io), G9 P1.13 (io), H1 P0.24 (io), H2 SWDIO (io), H3 P0.27/AIN6 (io), H7 P0.29 (io), H8 P0.30 (io), H9 P1.11 (io), J2 JTAG_TCK (in), J3 RESET_N (in), J4 NC, J5 NC, J7 P1.10 (io), J8 P0.28/AIN7 (io), J9 P0.31 (io), K1 NC, K9 NC
part A text: NORA-B100

## NORA-B106_original
designator U?, comment NORA-B106
u-blox NORA-B106 Bluetooth 5.2 LE module - dual core; Manufacturer P/N: NORA-B106-00B; Part Description: Stand-alone Bluetooth low energy module - dual core; Body Size: 14.3 mm x 10.4 mm; Part Number: NORA-B106; Part Name: NORA-B106; Part_Type: Module; Manufacturer: u-blox; Height: 1.8 mm; Value: NORA-B106
footprint NORA_LGA82R_1430X1040X180_ANT (NORA LGA, 82pin ,1.1mm Pitch, 14.3mm x 10.4mm)
part A pins: A1 VSS (power), A6 N.C. (hiz), A7 VDD (power), A8 VDDH (power), A9 VSS (power), B2 VSS (power), B7 VDD (power), B8 VSS (power), B9 VBUS (power), C9 D+ (io), D9 D- (io), E4 VSS (power), E5 VSS (power), F4 VSS (power), F5 VSS (power), H2 SWDIO (io), J1 N.C. (hiz), J2 SWDCLK (in), J3 ~{RESET} (in), J4 N.C. (hiz), J5 N.C. (hiz), K1 N.C. (hiz), K2 VSS (power), K3 VSS (power), K5 VSS (power), K7 VSS (power), K8 VSS (power), K9 N.C. (hiz), L1 VSS (power), L9 VSS (power), M1 VSS (power), M2 VSS (power), M8 VSS (power), M9 VSS (power)
part B pins: A2 P0.12/TRACECLK (io), A5 P0.20 (io), B1 P0.08/TRACEDATA[3] (io), B3 P0.11/TRACEDATA[0] (io), B5 P0.03/NFC2 (io), B6 P0.01/XL2 (io), C1 P0.10/TRACEDATA[1] (io), C2 P0.09/TRACEDATA[2] (io), C5 P0.02/NFC1 (io), C6 P0.00/XL1 (io), C8 P0.22 (io), D1 P0.15/QSPI[2] (io), D2 P0.13/QSPI[0] (io), D3 P0.07/AIN3 (io), D7 P0.23 (io), D8 P0.04/AIN0 (io), E1 P0.18/QSPI_CS (io), E2 P0.14/QSPI[1] (io), E3 P0.21 (io), E7 P0.06/AIN2 (io), E8 P0.05/AIN1 (io), F1 P0.17/QSPI_CLK (io), F2 P0.16/QSPI[3] (io), F3 P0.19 (io), G2 P0.26/AIN5 (io), G3 P0.25/AIN4 (io), H1 P0.24 (io), H3 P0.27/AIN6 (io), H7 P0.29 (io), H8 P0.30 (io), J8 P0.28/AIN7 (io), J9 P0.31 (io)
part C pins: A3 P1.03/I2C (io), A4 P1.00 (io), B4 P1.02/I2C (io), C4 P1.01 (io), E9 P1.05 (io), F7 P1.07 (io), F8 P1.14 (io), F9 P1.15 (io), G1 P1.06 (io), G4 P1.04 (io), G5 P1.08 (io), G7 P1.09 (io), G8 P1.12 (io), G9 P1.13 (io), H9 P1.11 (io), J7 P1.10 (io)

## NORA-B120
designator U?
u-blox NORA-B120 Bluetooth 5.2 LE module - dual core - FEM - U.FL; Manufacturer P/N: NORA-B101-00B; Part Number: NORA-B101; Part Description: Stand-alone Bluetooth low energy module - dual-core; Body Size: 14.3 mm x 10.4 mm; Value: NORA-W101; Part Name: NORA-B101; Part_Type: Module; Manufacturer: u-blox; Height: 1.8 mm
footprint NORA_LGA82R_1430X1040X180_UFL (NORA LGA, 82pin ,1.1mm Pitch, 14.3mm x 10.4mm)
part A pins: A1 GND (power), A7 VDD (power), A8 VDDH (power), A9 GND (power), B2 GND (power), B7 VDD (power), B8 GND (power), B9 VBUS (power), E4 GND (power), E5 GND (power), F4 GND (power), F5 GND (power), J1 NC, K2 GND (power), K3 GND (power), K5 GND (power), K7 GND (power), K8 GND (power), L1 GND (power), L9 GND (power), M1 GND (power), M2 GND (power), M8 GND (power), M9 GND (power)
part B pins: A2 P0.12/TRACECLK/DCX (io), A3 P1.03/TWI (io), A4 P1.00 (io), A5 P0.20 (io), A6 NC, B1 P0.08/TRACEDATA3/SCK (io), B3 P0.11/TRACEDATA0/SWO/CSN (io), B4 P1.02/TWI (io), B5 P0.03/NFC2 (io), B6 P0.01/XL2 (io), C1 P0.10/TRACEDATA1/MISO (io), C2 P0.09/TRACEDATA2/MOSI (io), C4 P1.01 (io), C5 P0.02/NFC1 (io), C6 P0.00/XL1 (io), C8 P0.22 (io), C9 USB_DP (io), D1 P0.15/IO2 (io), D2 P0.13/IO0 (io), D3 P0.07/AIN3 (io), D7 P0.23 (io), D8 P0.04/AIN0 (io), D9 USB_DM (io), E1 P0.18/CSN (io), E2 P0.14/IO1 (io), E3 P0.21 (io), E7 P0.06/AIN2 (io), E8 P0.05/AIN1 (io), E9 P1.05 (io), F1 P0.17/SCK (io), F2 P0.16/IO3 (io), F3 P0.19 (io), F7 P1.07 (io), F8 P1.14 (io), F9 P1.15 (io), G1 P1.06 (io), G2 P0.26/AIN5 (io), G3 P0.25/AIN4 (io), G4 P1.04 (io), G5 TX_EN (out), G7 RX_EN (out), G8 P1.12 (io), G9 P1.13 (io), H1 P0.24 (io), H2 SWDIO (io), H3 P0.27/AIN6 (io), H7 P0.29 (io), H8 P0.30 (io), H9 P1.11 (io), J2 JTAG_TCK (in), J3 RESET_N (in), J4 NC, J5 NC, J7 P1.10 (io), J8 P0.28/AIN7 (io), J9 P0.31 (io), K1 NC, K9 NC
part A text: NORA-B100

## NORA-B121
designator U?
u-blox NORA-B121 Bluetooth 5.2 LE module - dual core - FEM - antenna pin; Manufacturer P/N: NORA-B101-00B; Part Number: NORA-B101; Part Description: Stand-alone Bluetooth low energy module - dual-core; Body Size: 14.3 mm x 10.4 mm; Value: NORA-W101; Part Name: NORA-B101; Part_Type: Module; Manufacturer: u-blox; Height: 1.8 mm
footprint NORA_LGA82R_1430X1040X180_PIN (NORA LGA, 82pin ,1.1mm Pitch, 14.3mm x 10.4mm)
part A pins: A1 GND (power), A7 VDD (power), A8 VDDH (power), A9 GND (power), B2 GND (power), B7 VDD (power), B8 GND (power), B9 VBUS (power), E4 GND (power), E5 GND (power), F4 GND (power), F5 GND (power), J1 NC, K2 GND (power), K3 GND (power), K5 GND (power), K7 GND (power), K8 GND (power), L1 GND (power), L9 GND (power), M1 GND (power), M2 GND (power), M8 GND (power), M9 GND (power)
part B pins: A2 P0.12/TRACECLK/DCX (io), A3 P1.03/TWI (io), A4 P1.00 (io), A5 P0.20 (io), A6 NC, B1 P0.08/TRACEDATA3/SCK (io), B3 P0.11/TRACEDATA0/SWO/CSN (io), B4 P1.02/TWI (io), B5 P0.03/NFC2 (io), B6 P0.01/XL2 (io), C1 P0.10/TRACEDATA1/MISO (io), C2 P0.09/TRACEDATA2/MOSI (io), C4 P1.01 (io), C5 P0.02/NFC1 (io), C6 P0.00/XL1 (io), C8 P0.22 (io), C9 USB_DP (io), D1 P0.15/IO2 (io), D2 P0.13/IO0 (io), D3 P0.07/AIN3 (io), D7 P0.23 (io), D8 P0.04/AIN0 (io), D9 USB_DM (io), E1 P0.18/CSN (io), E2 P0.14/IO1 (io), E3 P0.21 (io), E7 P0.06/AIN2 (io), E8 P0.05/AIN1 (io), E9 P1.05 (io), F1 P0.17/SCK (io), F2 P0.16/IO3 (io), F3 P0.19 (io), F7 P1.07 (io), F8 P1.14 (io), F9 P1.15 (io), G1 P1.06 (io), G2 P0.26/AIN5 (io), G3 P0.25/AIN4 (io), G4 P1.04 (io), G5 TX_EN (out), G7 RX_EN (out), G8 P1.12 (io), G9 P1.13 (io), H1 P0.24 (io), H2 SWDIO (io), H3 P0.27/AIN6 (io), H7 P0.29 (io), H8 P0.30 (io), H9 P1.11 (io), J2 JTAG_TCK (in), J3 RESET_N (in), J4 NC, J5 NC, J7 P1.10 (io), J8 P0.28/AIN7 (io), J9 P0.31 (io), K1 NC, K9 ANT (io)
part A text: NORA-B100

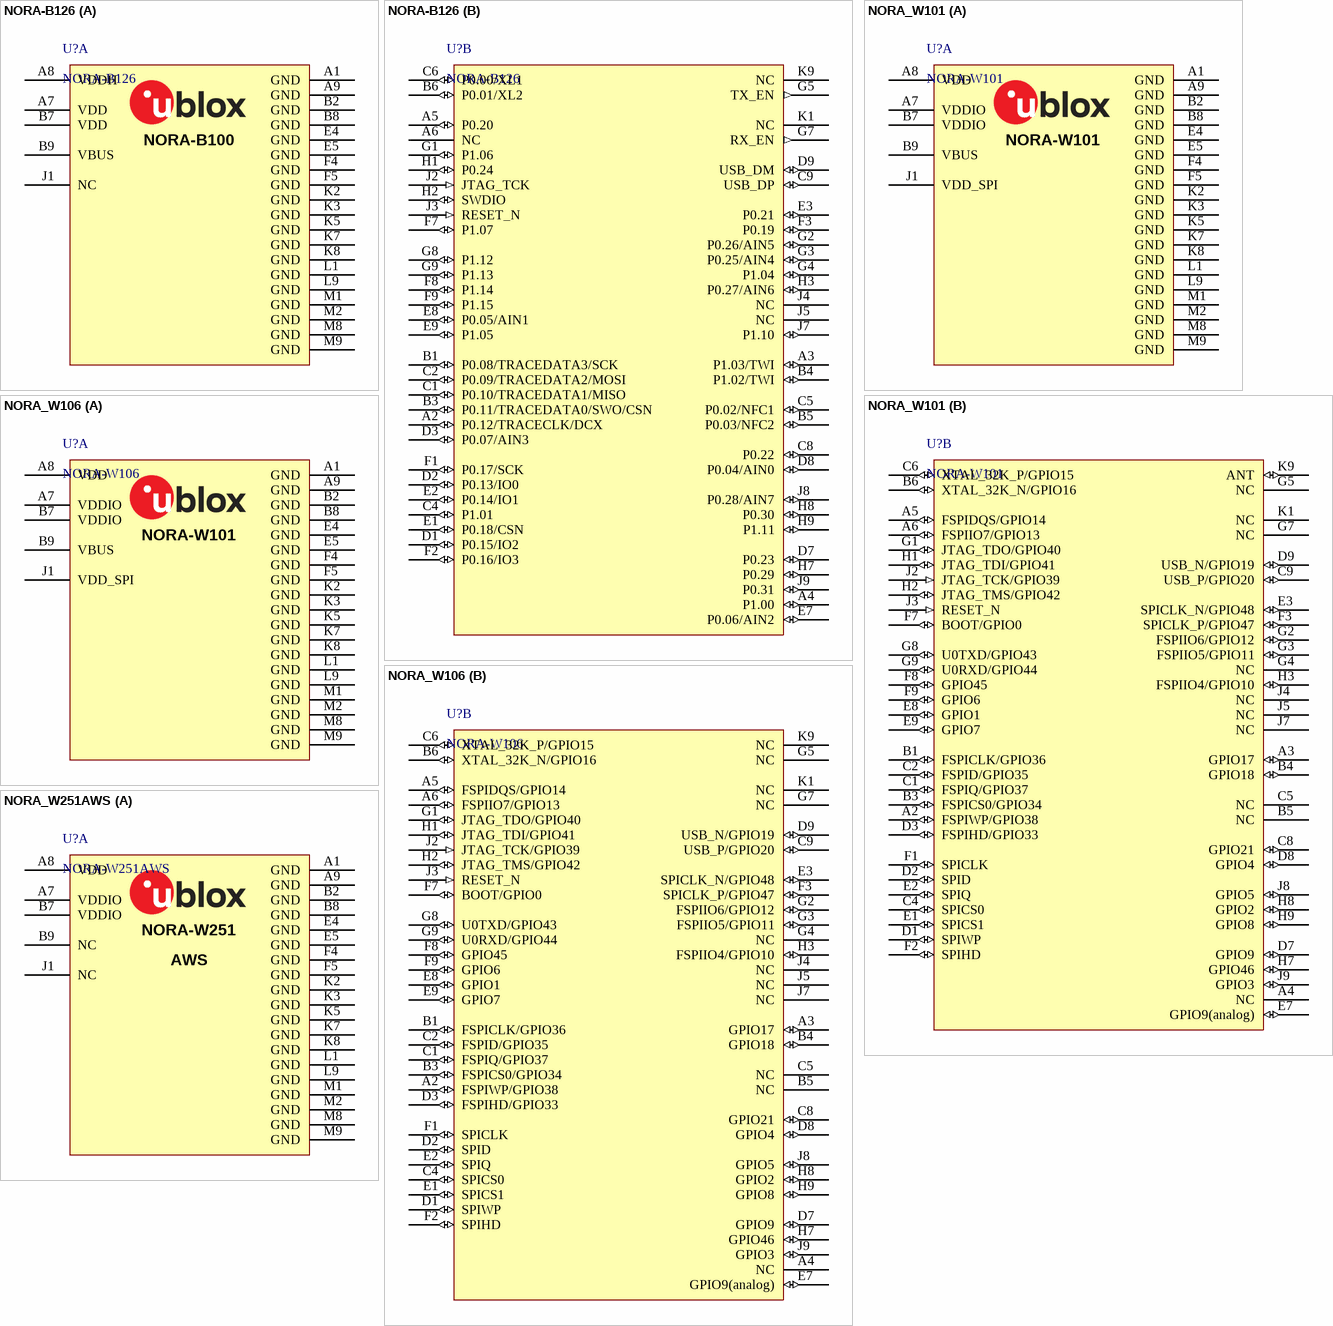
[diagram p11: symbols NORA-B126 to NORA_W251AWS]

## NORA-B126
designator U?
u-blox NORA-B126 Bluetooth 5.2 LE module - dual core - FEM - PCB antenna; Manufacturer P/N: NORA-B101-00B; Part Number: NORA-B101; Part Description: Stand-alone Bluetooth low energy module - dual-core; Body Size: 14.3 mm x 10.4 mm; Value: NORA-W101; Part Name: NORA-B101; Part_Type: Module; Manufacturer: u-blox; Height: 1.8 mm
footprint NORA_LGA82R_1430X1040X180_ANT (NORA LGA, 82pin ,1.1mm Pitch, 14.3mm x 10.4mm)
part A pins: A1 GND (power), A7 VDD (power), A8 VDDH (power), A9 GND (power), B2 GND (power), B7 VDD (power), B8 GND (power), B9 VBUS (power), E4 GND (power), E5 GND (power), F4 GND (power), F5 GND (power), J1 NC, K2 GND (power), K3 GND (power), K5 GND (power), K7 GND (power), K8 GND (power), L1 GND (power), L9 GND (power), M1 GND (power), M2 GND (power), M8 GND (power), M9 GND (power)
part B pins: A2 P0.12/TRACECLK/DCX (io), A3 P1.03/TWI (io), A4 P1.00 (io), A5 P0.20 (io), A6 NC, B1 P0.08/TRACEDATA3/SCK (io), B3 P0.11/TRACEDATA0/SWO/CSN (io), B4 P1.02/TWI (io), B5 P0.03/NFC2 (io), B6 P0.01/XL2 (io), C1 P0.10/TRACEDATA1/MISO (io), C2 P0.09/TRACEDATA2/MOSI (io), C4 P1.01 (io), C5 P0.02/NFC1 (io), C6 P0.00/XL1 (io), C8 P0.22 (io), C9 USB_DP (io), D1 P0.15/IO2 (io), D2 P0.13/IO0 (io), D3 P0.07/AIN3 (io), D7 P0.23 (io), D8 P0.04/AIN0 (io), D9 USB_DM (io), E1 P0.18/CSN (io), E2 P0.14/IO1 (io), E3 P0.21 (io), E7 P0.06/AIN2 (io), E8 P0.05/AIN1 (io), E9 P1.05 (io), F1 P0.17/SCK (io), F2 P0.16/IO3 (io), F3 P0.19 (io), F7 P1.07 (io), F8 P1.14 (io), F9 P1.15 (io), G1 P1.06 (io), G2 P0.26/AIN5 (io), G3 P0.25/AIN4 (io), G4 P1.04 (io), G5 TX_EN (out), G7 RX_EN (out), G8 P1.12 (io), G9 P1.13 (io), H1 P0.24 (io), H2 SWDIO (io), H3 P0.27/AIN6 (io), H7 P0.29 (io), H8 P0.30 (io), H9 P1.11 (io), J2 JTAG_TCK (in), J3 RESET_N (in), J4 NC, J5 NC, J7 P1.10 (io), J8 P0.28/AIN7 (io), J9 P0.31 (io), K1 NC, K9 NC
part A text: NORA-B100

## NORA_W101
designator U?, comment NORA-W101
u-blox NORA-W101 Bluetooth LE and Wi-Fi module - antenna pin; Manufacturer P/N: NORA-B101-00B; Part Number: NORA-B101; Part Description: Stand-alone Bluetooth low energy module - dual-core; Body Size: 14.3 mm x 10.4 mm; Part Name: NORA-B101; Part_Type: Module; Manufacturer: u-blox; Height: 1.8 mm; Value: NORA-W101
footprint NORA_LGA82R_1430X1040X190_PIN (NORA LGA, 82pin ,1.1mm Pitch, 14.3mm x 10.4mm x 1.9mm)
part A pins: A1 GND (power), A7 VDDIO (power), A8 VDD (power), A9 GND (power), B2 GND (power), B7 VDDIO (power), B8 GND (power), B9 VBUS (power), E4 GND (power), E5 GND (power), F4 GND (power), F5 GND (power), J1 VDD_SPI (power), K2 GND (power), K3 GND (power), K5 GND (power), K7 GND (power), K8 GND (power), L1 GND (power), L9 GND (power), M1 GND (power), M2 GND (power), M8 GND (power), M9 GND (power)
part B pins: A2 FSPIWP/GPIO38 (io), A3 GPIO17 (io), A4 NC, A5 FSPIDQS/GPIO14 (io), A6 FSPIIO7/GPIO13 (io), B1 FSPICLK/GPIO36 (io), B3 FSPICS0/GPIO34 (io), B4 GPIO18 (io), B5 NC, B6 XTAL_32K_N/GPIO16 (io), C1 FSPIQ/GPIO37 (io), C2 FSPID/GPIO35 (io), C4 SPICS0 (io), C5 NC, C6 XTAL_32K_P/GPIO15 (io), C8 GPIO21 (io), C9 USB_P/GPIO20 (io), D1 SPIWP (io), D2 SPID (io), D3 FSPIHD/GPIO33 (io), D7 GPIO9 (io), D8 GPIO4 (io), D9 USB_N/GPIO19 (io), E1 SPICS1 (io), E2 SPIQ (io), E3 SPICLK_N/GPIO48 (io), E7 GPIO9(analog) (io), E8 GPIO1 (io), E9 GPIO7 (io), F1 SPICLK (io), F2 SPIHD (io), F3 SPICLK_P/GPIO47 (io), F7 BOOT/GPIO0 (io), F8 GPIO45 (io), F9 GPIO6 (io), G1 JTAG_TDO/GPIO40 (io), G2 FSPIIO6/GPIO12 (io), G3 FSPIIO5/GPIO11 (io), G4 NC, G5 NC, G7 NC, G8 U0TXD/GPIO43 (io), G9 U0RXD/GPIO44 (io), H1 JTAG_TDI/GPIO41 (io), H2 JTAG_TMS/GPIO42 (io), H3 FSPIIO4/GPIO10 (io), H7 GPIO46 (io), H8 GPIO2 (io), H9 GPIO8 (io), J2 JTAG_TCK/GPIO39 (in), J3 RESET_N (in), J4 NC, J5 NC, J7 NC, J8 GPIO5 (io), J9 GPIO3 (io), K1 NC, K9 ANT (io)

## NORA_W106
designator U?, comment NORA-W106
u-blox NORA-W106 Bluetooth LE and Wi-Fi module - PCB antenna; Manufacturer P/N: NORA-B101-00B; Part Number: NORA-B101; Part Description: Stand-alone Bluetooth low energy module - dual-core; Body Size: 14.3 mm x 10.4 mm; Value: NORA-W101; Part Name: NORA-B101; Part_Type: Module; Manufacturer: u-blox; Height: 1.8 mm
footprint NORA_LGA82R_1430X1040X190_ANT (NORA LGA, 82pin ,1.1mm Pitch, 14.3mm x 10.4mm x 1.9mm)
part A pins: A1 GND (power), A7 VDDIO (power), A8 VDD (power), A9 GND (power), B2 GND (power), B7 VDDIO (power), B8 GND (power), B9 VBUS (power), E4 GND (power), E5 GND (power), F4 GND (power), F5 GND (power), J1 VDD_SPI (power), K2 GND (power), K3 GND (power), K5 GND (power), K7 GND (power), K8 GND (power), L1 GND (power), L9 GND (power), M1 GND (power), M2 GND (power), M8 GND (power), M9 GND (power)
part B pins: A2 FSPIWP/GPIO38 (io), A3 GPIO17 (io), A4 NC, A5 FSPIDQS/GPIO14 (io), A6 FSPIIO7/GPIO13 (io), B1 FSPICLK/GPIO36 (io), B3 FSPICS0/GPIO34 (io), B4 GPIO18 (io), B5 NC, B6 XTAL_32K_N/GPIO16 (io), C1 FSPIQ/GPIO37 (io), C2 FSPID/GPIO35 (io), C4 SPICS0 (io), C5 NC, C6 XTAL_32K_P/GPIO15 (io), C8 GPIO21 (io), C9 USB_P/GPIO20 (io), D1 SPIWP (io), D2 SPID (io), D3 FSPIHD/GPIO33 (io), D7 GPIO9 (io), D8 GPIO4 (io), D9 USB_N/GPIO19 (io), E1 SPICS1 (io), E2 SPIQ (io), E3 SPICLK_N/GPIO48 (io), E7 GPIO9(analog) (io), E8 GPIO1 (io), E9 GPIO7 (io), F1 SPICLK (io), F2 SPIHD (io), F3 SPICLK_P/GPIO47 (io), F7 BOOT/GPIO0 (io), F8 GPIO45 (io), F9 GPIO6 (io), G1 JTAG_TDO/GPIO40 (io), G2 FSPIIO6/GPIO12 (io), G3 FSPIIO5/GPIO11 (io), G4 NC, G5 NC, G7 NC, G8 U0TXD/GPIO43 (io), G9 U0RXD/GPIO44 (io), H1 JTAG_TDI/GPIO41 (io), H2 JTAG_TMS/GPIO42 (io), H3 FSPIIO4/GPIO10 (io), H7 GPIO46 (io), H8 GPIO2 (io), H9 GPIO8 (io), J2 JTAG_TCK/GPIO39 (in), J3 RESET_N (in), J4 NC, J5 NC, J7 NC, J8 GPIO5 (io), J9 GPIO3 (io), K1 NC, K9 NC

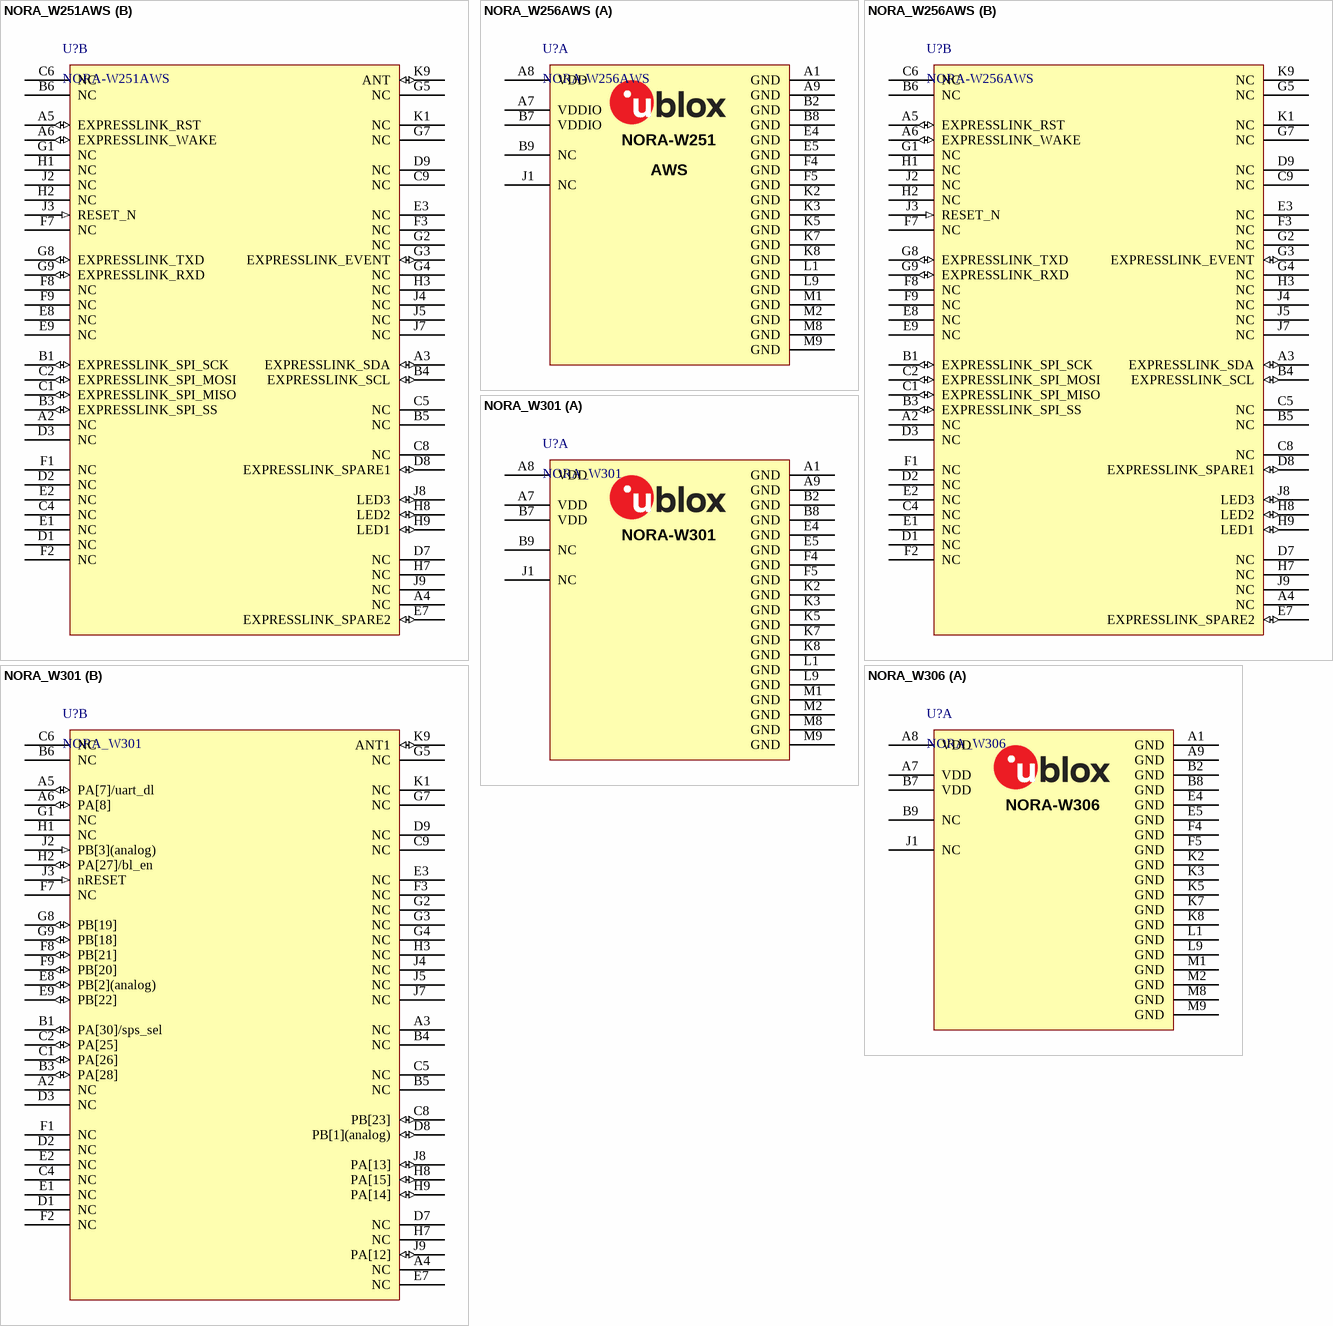
[diagram p12: symbols NORA_W251AWS to NORA_W306]

## NORA_W251AWS
designator U?, comment NORA-W251AWS
u-blox NORA-W251AWS Bluetooth LE and Wi-Fi module - antenna pin; Manufacturer P/N: NORA-B101-00B; Part Number: NORA-B101; Part Description: Stand-alone Bluetooth low energy module - dual-core; Body Size: 14.3 mm x 10.4 mm; Value: NORA-W101; Part Name: NORA-B101; Part_Type: Module; Manufacturer: u-blox; Height: 1.8 mm
footprint NORA_LGA82R_1430X1040X190_PIN (NORA LGA, 82pin ,1.1mm Pitch, 14.3mm x 10.4mm x 1.9mm)
part A pins: A1 GND (power), A7 VDDIO (power), A8 VDD (power), A9 GND (power), B2 GND (power), B7 VDDIO (power), B8 GND (power), B9 NC, E4 GND (power), E5 GND (power), F4 GND (power), F5 GND (power), J1 NC, K2 GND (power), K3 GND (power), K5 GND (power), K7 GND (power), K8 GND (power), L1 GND (power), L9 GND (power), M1 GND (power), M2 GND (power), M8 GND (power), M9 GND (power)
part B pins: A2 NC, A3 EXPRESSLINK_SDA (io), A4 NC, A5 EXPRESSLINK_RST (io), A6 EXPRESSLINK_WAKE (io), B1 EXPRESSLINK_SPI_SCK (io), B3 EXPRESSLINK_SPI_SS (io), B4 EXPRESSLINK_SCL (io), B5 NC, B6 NC, C1 EXPRESSLINK_SPI_MISO (io), C2 EXPRESSLINK_SPI_MOSI (io), C4 NC, C5 NC, C6 NC, C8 NC, C9 NC, D1 NC, D2 NC, D3 NC, D7 NC, D8 EXPRESSLINK_SPARE1 (io), D9 NC, E1 NC, E2 NC, E3 NC, E7 EXPRESSLINK_SPARE2 (io), E8 NC, E9 NC, F1 NC, F2 NC, F3 NC, F7 NC, F8 NC, F9 NC, G1 NC, G2 NC, G3 EXPRESSLINK_EVENT (io), G4 NC, G5 NC, G7 NC, G8 EXPRESSLINK_TXD (io), G9 EXPRESSLINK_RXD (io), H1 NC, H2 NC, H3 NC, H7 NC, H8 LED2 (io), H9 LED1 (io), J2 NC, J3 RESET_N (in), J4 NC, J5 NC, J7 NC, J8 LED3 (io), J9 NC, K1 NC, K9 ANT (io)
part A text: NORA-W251; AWS

## NORA_W256AWS
designator U?, comment NORA-W256AWS
u-blox NORA-W256AWS Bluetooth LE and Wi-Fi module - PCB antenna; Manufacturer P/N: NORA-B101-00B; Part Number: NORA-B101; Part Description: Stand-alone Bluetooth low energy module - dual-core; Body Size: 14.3 mm x 10.4 mm; Value: NORA-W101; Part Name: NORA-B101; Part_Type: Module; Manufacturer: u-blox; Height: 1.8 mm
footprint NORA_LGA82R_1430X1040X190_ANT (NORA LGA, 82pin ,1.1mm Pitch, 14.3mm x 10.4mm x 1.9mm)
part A pins: A1 GND (power), A7 VDDIO (power), A8 VDD (power), A9 GND (power), B2 GND (power), B7 VDDIO (power), B8 GND (power), B9 NC, E4 GND (power), E5 GND (power), F4 GND (power), F5 GND (power), J1 NC, K2 GND (power), K3 GND (power), K5 GND (power), K7 GND (power), K8 GND (power), L1 GND (power), L9 GND (power), M1 GND (power), M2 GND (power), M8 GND (power), M9 GND (power)
part B pins: A2 NC, A3 EXPRESSLINK_SDA (io), A4 NC, A5 EXPRESSLINK_RST (io), A6 EXPRESSLINK_WAKE (io), B1 EXPRESSLINK_SPI_SCK (io), B3 EXPRESSLINK_SPI_SS (io), B4 EXPRESSLINK_SCL (io), B5 NC, B6 NC, C1 EXPRESSLINK_SPI_MISO (io), C2 EXPRESSLINK_SPI_MOSI (io), C4 NC, C5 NC, C6 NC, C8 NC, C9 NC, D1 NC, D2 NC, D3 NC, D7 NC, D8 EXPRESSLINK_SPARE1 (io), D9 NC, E1 NC, E2 NC, E3 NC, E7 EXPRESSLINK_SPARE2 (io), E8 NC, E9 NC, F1 NC, F2 NC, F3 NC, F7 NC, F8 NC, F9 NC, G1 NC, G2 NC, G3 EXPRESSLINK_EVENT (io), G4 NC, G5 NC, G7 NC, G8 EXPRESSLINK_TXD (io), G9 EXPRESSLINK_RXD (io), H1 NC, H2 NC, H3 NC, H7 NC, H8 LED2 (io), H9 LED1 (io), J2 NC, J3 RESET_N (in), J4 NC, J5 NC, J7 NC, J8 LED3 (io), J9 NC, K1 NC, K9 NC
part A text: NORA-W251; AWS

## NORA_W301
designator U?
u-blox NORA-W301 Bluetooth LE and Wi-Fi module - antenna pin; Manufacturer P/N: NORA-B101-00B; Part Number: NORA-B101; Part Description: Stand-alone Bluetooth low energy module - dual-core; Body Size: 14.3 mm x 10.4 mm; Value: NORA-W101; Part Name: NORA-B101; Part_Type: Module; Manufacturer: u-blox; Height: 1.8 mm
footprint NORA_LGA82R_1430X1040X190_W3_PIN (NORA LGA, 82pin ,1.1mm Pitch, 14.3mm x 10.4mm)
part A pins: A1 GND (power), A7 VDD (power), A8 VDD (power), A9 GND (power), B2 GND (power), B7 VDD (power), B8 GND (power), B9 NC, E4 GND (power), E5 GND (power), F4 GND (power), F5 GND (power), J1 NC, K2 GND (power), K3 GND (power), K5 GND (power), K7 GND (power), K8 GND (power), L1 GND (power), L9 GND (power), M1 GND (power), M2 GND (power), M8 GND (power), M9 GND (power)
part B pins: A2 NC, A3 NC, A4 NC, A5 PA[7]/uart_dl (io), A6 PA[8] (io), B1 PA[30]/sps_sel (io), B3 PA[28] (io), B4 NC, B5 NC, B6 NC, C1 PA[26] (io), C2 PA[25] (io), C4 NC, C5 NC, C6 NC, C8 PB[23] (io), C9 NC, D1 NC, D2 NC, D3 NC, D7 NC, D8 PB[1](analog) (io), D9 NC, E1 NC, E2 NC, E3 NC, E7 NC, E8 PB[2](analog) (io), E9 PB[22] (io), F1 NC, F2 NC, F3 NC, F7 NC, F8 PB[21] (io), F9 PB[20] (io), G1 NC, G2 NC, G3 NC, G4 NC, G5 NC, G7 NC, G8 PB[19] (io), G9 PB[18] (io), H1 NC, H2 PA[27]/bl_en (io), H3 NC, H7 NC, H8 PA[15] (io), H9 PA[14] (io), J2 PB[3](analog) (in), J3 nRESET (in), J4 NC, J5 NC, J7 NC, J8 PA[13] (io), J9 PA[12] (io), K1 NC, K9 ANT1 (io)
part A text: NORA-W301

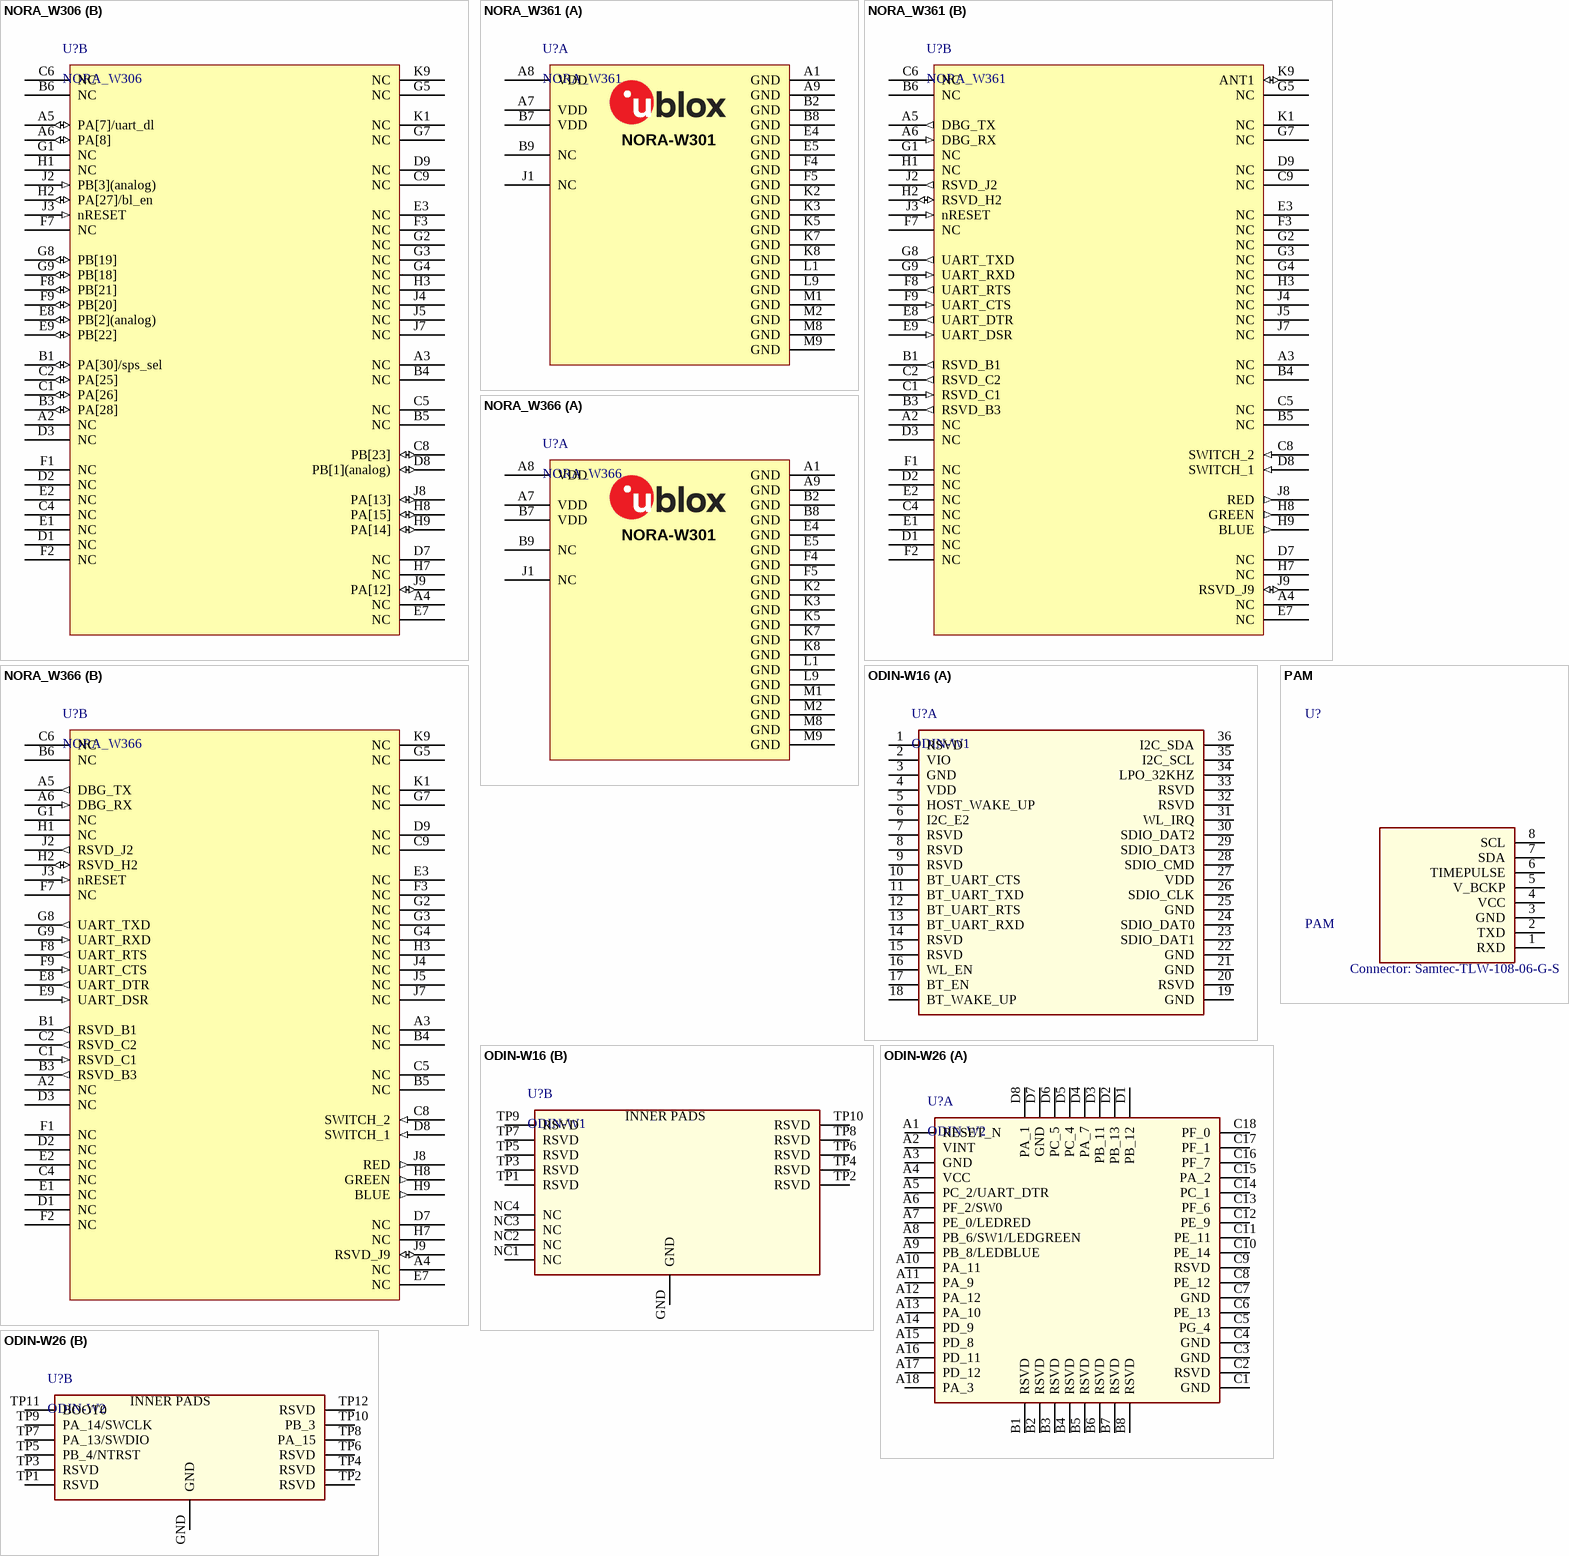
[diagram p13: symbols NORA_W306 to PAM]

## NORA_W306
designator U?
u-blox NORA-W306 Bluetooth LE and Wi-Fi module - antenna pin; Manufacturer P/N: NORA-B101-00B; Part Number: NORA-B101; Part Description: Stand-alone Bluetooth low energy module - dual-core; Body Size: 14.3 mm x 10.4 mm; Value: NORA-W101; Part Name: NORA-B101; Part_Type: Module; Manufacturer: u-blox; Height: 1.8 mm
footprint NORA_LGA82R_1430X1040X190_W3_ANT (NORA LGA, 82pin ,1.1mm Pitch, 14.3mm x 10.4mm)
part A pins: A1 GND (power), A7 VDD (power), A8 VDD (power), A9 GND (power), B2 GND (power), B7 VDD (power), B8 GND (power), B9 NC, E4 GND (power), E5 GND (power), F4 GND (power), F5 GND (power), J1 NC, K2 GND (power), K3 GND (power), K5 GND (power), K7 GND (power), K8 GND (power), L1 GND (power), L9 GND (power), M1 GND (power), M2 GND (power), M8 GND (power), M9 GND (power)
part B pins: A2 NC, A3 NC, A4 NC, A5 PA[7]/uart_dl (io), A6 PA[8] (io), B1 PA[30]/sps_sel (io), B3 PA[28] (io), B4 NC, B5 NC, B6 NC, C1 PA[26] (io), C2 PA[25] (io), C4 NC, C5 NC, C6 NC, C8 PB[23] (io), C9 NC, D1 NC, D2 NC, D3 NC, D7 NC, D8 PB[1](analog) (io), D9 NC, E1 NC, E2 NC, E3 NC, E7 NC, E8 PB[2](analog) (io), E9 PB[22] (io), F1 NC, F2 NC, F3 NC, F7 NC, F8 PB[21] (io), F9 PB[20] (io), G1 NC, G2 NC, G3 NC, G4 NC, G5 NC, G7 NC, G8 PB[19] (io), G9 PB[18] (io), H1 NC, H2 PA[27]/bl_en (io), H3 NC, H7 NC, H8 PA[15] (io), H9 PA[14] (io), J2 PB[3](analog) (in), J3 nRESET (in), J4 NC, J5 NC, J7 NC, J8 PA[13] (io), J9 PA[12] (io), K1 NC, K9 NC
part A text: NORA-W306

## NORA_W361
designator U?
u-blox NORA-W361 Bluetooth LE and Wi-Fi module - antenna pin; Manufacturer P/N: NORA-B101-00B; Part Number: NORA-B101; Part Description: Stand-alone Bluetooth low energy module - dual-core; Body Size: 14.3 mm x 10.4 mm; Value: NORA-W101; Part Name: NORA-B101; Part_Type: Module; Manufacturer: u-blox; Height: 1.8 mm
footprint NORA_LGA82R_1430X1040X190_W3_PIN (NORA LGA, 82pin ,1.1mm Pitch, 14.3mm x 10.4mm)
part A pins: A1 GND (power), A7 VDD (power), A8 VDD (power), A9 GND (power), B2 GND (power), B7 VDD (power), B8 GND (power), B9 NC, E4 GND (power), E5 GND (power), F4 GND (power), F5 GND (power), J1 NC, K2 GND (power), K3 GND (power), K5 GND (power), K7 GND (power), K8 GND (power), L1 GND (power), L9 GND (power), M1 GND (power), M2 GND (power), M8 GND (power), M9 GND (power)
part B pins: A2 NC, A3 NC, A4 NC, A5 DBG_TX (out), A6 DBG_RX (in), B1 RSVD_B1 (out), B3 RSVD_B3 (out), B4 NC, B5 NC, B6 NC, C1 RSVD_C1 (in), C2 RSVD_C2 (out), C4 NC, C5 NC, C6 NC, C8 SWITCH_2 (in), C9 NC, D1 NC, D2 NC, D3 NC, D7 NC, D8 SWITCH_1 (in), D9 NC, E1 NC, E2 NC, E3 NC, E7 NC, E8 UART_DTR (out), E9 UART_DSR (in), F1 NC, F2 NC, F3 NC, F7 NC, F8 UART_RTS (out), F9 UART_CTS (in), G1 NC, G2 NC, G3 NC, G4 NC, G5 NC, G7 NC, G8 UART_TXD (out), G9 UART_RXD (in), H1 NC, H2 RSVD_H2 (io), H3 NC, H7 NC, H8 GREEN (out), H9 BLUE (out), J2 RSVD_J2 (out), J3 nRESET (in), J4 NC, J5 NC, J7 NC, J8 RED (out), J9 RSVD_J9 (io), K1 NC, K9 ANT1 (io)
part A text: NORA-W301

## NORA_W366
designator U?
u-blox NORA-W366 Bluetooth LE and Wi-Fi module - PCB antenna; Manufacturer P/N: NORA-B101-00B; Part Number: NORA-B101; Part Description: Stand-alone Bluetooth low energy module - dual-core; Body Size: 14.3 mm x 10.4 mm; Value: NORA-W101; Part Name: NORA-B101; Part_Type: Module; Manufacturer: u-blox; Height: 1.8 mm
footprint NORA_LGA82R_1430X1040X190_W3_ANT (NORA LGA, 82pin ,1.1mm Pitch, 14.3mm x 10.4mm)
part A pins: A1 GND (power), A7 VDD (power), A8 VDD (power), A9 GND (power), B2 GND (power), B7 VDD (power), B8 GND (power), B9 NC, E4 GND (power), E5 GND (power), F4 GND (power), F5 GND (power), J1 NC, K2 GND (power), K3 GND (power), K5 GND (power), K7 GND (power), K8 GND (power), L1 GND (power), L9 GND (power), M1 GND (power), M2 GND (power), M8 GND (power), M9 GND (power)
part B pins: A2 NC, A3 NC, A4 NC, A5 DBG_TX (out), A6 DBG_RX (in), B1 RSVD_B1 (out), B3 RSVD_B3 (out), B4 NC, B5 NC, B6 NC, C1 RSVD_C1 (in), C2 RSVD_C2 (out), C4 NC, C5 NC, C6 NC, C8 SWITCH_2 (in), C9 NC, D1 NC, D2 NC, D3 NC, D7 NC, D8 SWITCH_1 (in), D9 NC, E1 NC, E2 NC, E3 NC, E7 NC, E8 UART_DTR (out), E9 UART_DSR (in), F1 NC, F2 NC, F3 NC, F7 NC, F8 UART_RTS (out), F9 UART_CTS (in), G1 NC, G2 NC, G3 NC, G4 NC, G5 NC, G7 NC, G8 UART_TXD (out), G9 UART_RXD (in), H1 NC, H2 RSVD_H2 (io), H3 NC, H7 NC, H8 GREEN (out), H9 BLUE (out), J2 RSVD_J2 (out), J3 nRESET (in), J4 NC, J5 NC, J7 NC, J8 RED (out), J9 RSVD_J9 (io), K1 NC, K9 NC (hiz)
part A text: NORA-W301

## ODIN-W16
designator U?, comment ODIN-W1
u-blox ODIN-W16 host-based multiradio module with Wi-Fi and Bluetooth; Manufacturer: u-blox; Part Description: Host-based multiradio module with Wi-Fi and Bluetooth; Value: ODIN-W1
footprint ODIN-W16 (ODIN-W16 WiFi/BT module)
part A pins: 1 RSVD, 2 VIO, 3 GND, 4 VDD, 5 HOST_WAKE_UP, 6 I2C_E2, 7 RSVD, 8 RSVD, 9 RSVD, 10 BT_UART_CTS, 11 BT_UART_TXD, 12 BT_UART_RTS, 13 BT_UART_RXD, 14 RSVD, 15 RSVD, 16 WL_EN, 17 BT_EN, 18 BT_WAKE_UP, 19 GND, 20 RSVD, 21 GND, 22 GND, 23 SDIO_DAT1, 24 SDIO_DAT0, 25 GND, 26 SDIO_CLK, 27 VDD, 28 SDIO_CMD, 29 SDIO_DAT3, 30 SDIO_DAT2, 31 WL_IRQ, 32 RSVD, 33 RSVD, 34 LPO_32KHZ, 35 I2C_SCL, 36 I2C_SDA
part B pins: GND, NC1 NC, NC2 NC, NC3 NC, NC4 NC, TP1 RSVD, TP2 RSVD, TP3 RSVD, TP4 RSVD, TP5 RSVD, TP6 RSVD, TP7 RSVD, TP8 RSVD, TP9 RSVD, TP10 RSVD
1 alternate drawing of the same symbol
part B text: INNER PADS

## ODIN-W26
designator U?, comment ODIN-W2
u-blox ODIN-W26 host-based multiradio module with Wi-Fi and Bluetooth; Part Description: Stand-alone multiradio module with Wi-Fi & Bluetooth; Manufacturer: u-blox; Value: ODIN-W2
footprint ODIN-W26 (ODIN-W262 WiFi/BT  module)
part A pins: A1 RESET_N, A2 VINT, A3 GND, A4 VCC, A5 PC_2/UART_DTR, A6 PF_2/SW0, A7 PE_0/LEDRED, A8 PB_6/SW1/LEDGREEN, A9 PB_8/LEDBLUE, A10 PA_11, A11 PA_9, A12 PA_12, A13 PA_10, A14 PD_9, A15 PD_8, A16 PD_11, A17 PD_12, A18 PA_3, B1 RSVD, B2 RSVD, B3 RSVD, B4 RSVD, B5 RSVD, B6 RSVD, B7 RSVD, B8 RSVD, C1 GND, C2 RSVD, C3 GND, C4 GND, C5 PG_4, C6 PE_13, C7 GND, C8 PE_12, C9 RSVD, C10 PE_14, C11 PE_11, C12 PE_9, C13 PF_6, C14 PC_1, C15 PA_2, C16 PF_7, C17 PF_1, C18 PF_0, D1 PB_12, D2 PB_13, D3 PB_11, D4 PA_7, D5 PC_4, D6 PC_5, D7 GND, D8 PA_1
part B pins: GND, TP1 RSVD, TP2 RSVD, TP3 RSVD, TP4 RSVD, TP5 PB_4/NTRST, TP6 RSVD, TP7 PA_13/SWDIO, TP8 PA_15, TP9 PA_14/SWCLK, TP10 PB_3, TP11 BOOT0, TP12 RSVD
part B text: INNER PADS

## PAM
designator U?  Connector: Samtec-TLW-108-06-G-S
u-blox PAM GNSS antenna module; Manufacturer: u-blox; Part Description: u-blox PAM GNSS antenna module; Value: PAM
footprint PAM (u-blox PAM antenna module)
pins: 1 RXD, 2 TXD, 3 GND, 4 VCC, 5 V_BCKP, 6 TIMEPULSE, 7 SDA, 8 SCL

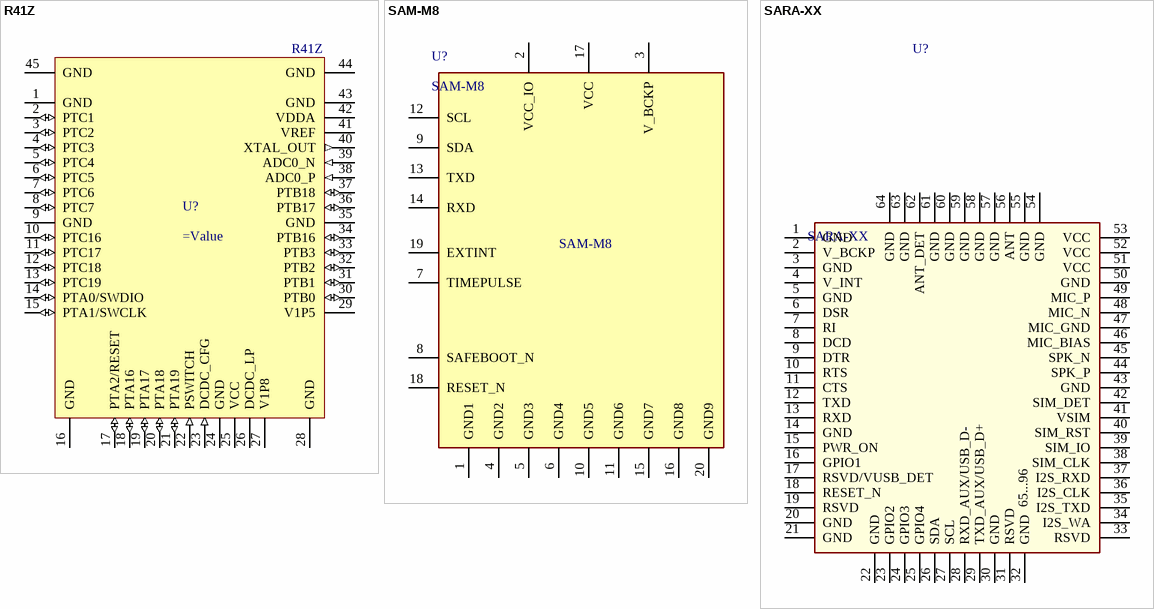
[diagram p14: symbols R41Z to SARA-XX]

## R41Z
designator U?  Part Number: R41Z
u-blox R41Z Bluetooth 4.2 LE, 802.15.4 module; Manufacturer P/N: R41Z-TA-R; Body Size: 15.2mmx10.6mm; Internal Antenna: Yes; RF Protocol: BT 4.2 LE, 802.15.4, 2.4GHz Proprietary; Height: 2.1mm; Manufacturer: u-blox
footprint R41Z_LGA45S_1620X1060X210_PCB (LGA, 45pin, 1.1mm Pitch, 1.2mm x 10.6mm)
pins: 1 GND (power), 2 PTC1 (io), 3 PTC2 (io), 4 PTC3 (io), 5 PTC4 (io), 6 PTC5 (io), 7 PTC6 (io), 8 PTC7 (io), 9 GND (power), 10 PTC16 (io), 11 PTC17 (io), 12 PTC18 (io), 13 PTC19 (io), 14 PTA0/SWDIO (io), 15 PTA1/SWCLK (io), 16 GND (power), 17 PTA2/RESET (io), 18 PTA16 (io), 19 PTA17 (io), 20 PTA18 (io), 21 PTA19 (io), 22 PSWITCH (in), 23 DCDC_CFG (in), 24 GND (power), 25 VCC (power), 26 DCDC_LP (power), 27 V1P8 (power), 28 GND (power), 29 V1P5 (power), 30 PTB0 (io), 31 PTB1 (io), 32 PTB2 (io), 33 PTB3 (io), 34 PTB16 (io), 35 GND (power), 36 PTB17 (io), 37 PTB18 (io), 38 ADC0_P (in), 39 ADC0_N (in), 40 XTAL_OUT (out), 41 VREF (power), 42 VDDA (power), 43 GND (power), 44 GND (power), 45 GND (power)

## SAM-M8
designator U?
u-blox SAM GNSS antenna module; Manufacturer: u-blox; Part Description: u-blox SAM GNSS antenna module; Value: SAM-M8
footprint SAM-M8 (ublox SAM antenna module)
pins: 1 GND1, 2 VCC_IO, 3 V_BCKP, 4 GND2, 5 GND3, 6 GND4, 7 TIMEPULSE, 8 SAFEBOOT_N, 9 SDA, 10 GND5, 11 GND6, 12 SCL, 13 TXD, 14 RXD, 15 GND7, 16 GND8, 17 VCC, 18 RESET_N, 19 EXTINT, 20 GND9